# Altium integrated library Atmel AT40K.IntLib: 139 symbols (part 6 of 12)
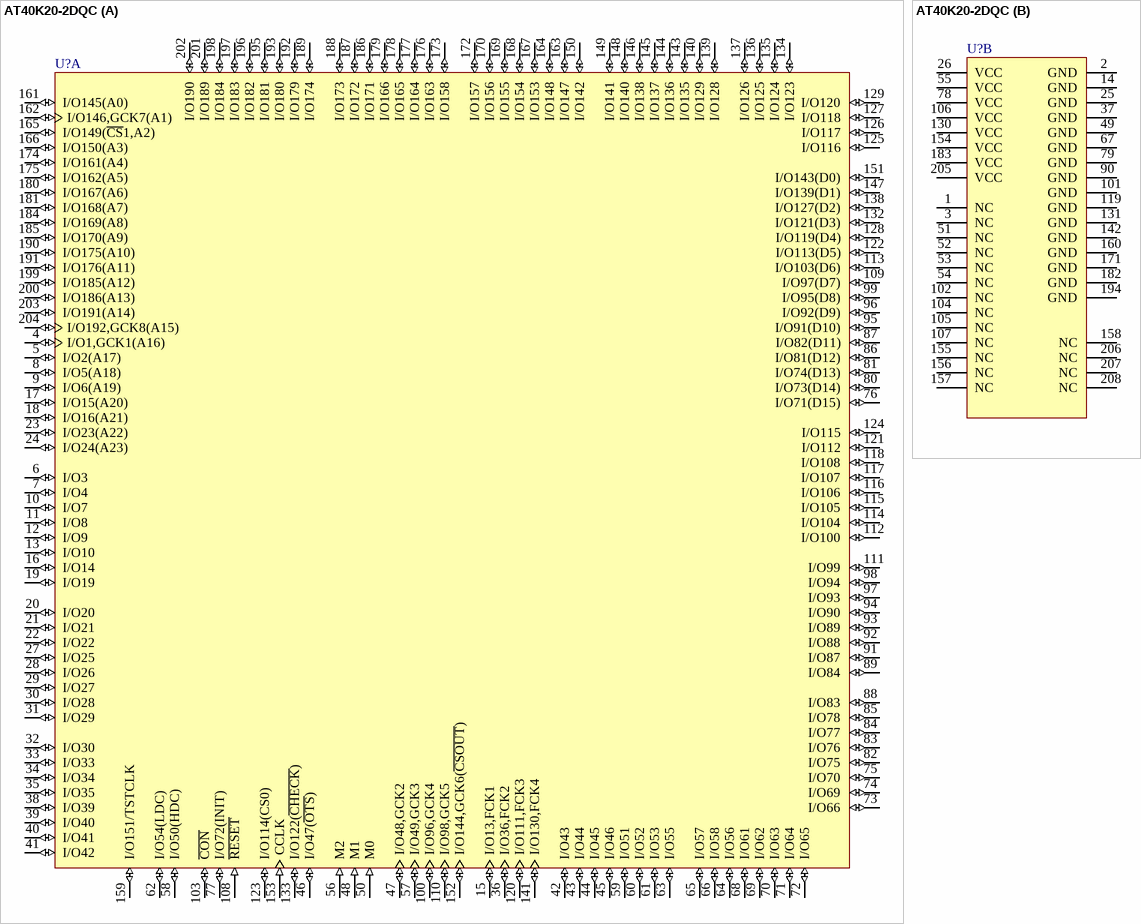
[diagram p93: symbol AT40K20-2DQC]

## AT40K20-2DQC
designator U?
AT40K20 5.0V FPGA, 161 User I/Os, 208-Lead PQFP, Speed Grade 2, Commercial Grade; Published: 15-Apr-2002; LatestRevisionDate: 13-Apr-2006; LatestRevisionNote: IPC-7351 Footprint Added.; DatasheetVersion: Rev. 0896C-04/02; PackageVersion: rev.A, Nov-2001; PackageReference: 208Q1; Publisher: Altium Limited; PackageDescription: 208-Pin Shrink Quad Flat Pack 0.5 mm Pitch; Supplier 1: Digi-Key; Supplier Part Number 1: AT40K20-2DQC-ND; Supplier 2: Mouser; Supplier Part Number 2: 556-AT40K20-2DQC; ComponentLink1Description: Manufacturer Link; ComponentLink1URL: http://www.atmel.com/products/FPGA/; ComponentLink2Description: Datasheet; ComponentLink2URL: http://www.atmel.com/dyn/resources/prod_documents/DOC0896.PDF; ComponentLink3Description: Atmel.com Home; ComponentLink3URL: http://www.atmel.com
footprint 208Q1_N (Shrink QFP, 208-Leads, Body 28x28mm, Pitch 0.5mm, IPC Medium Density)
footprint 208Q1_L (Shrink QFP, 208-Leads, Body 28x28mm, Pitch 0.5mm, IPC High Density)
footprint 208Q1_M (Shrink QFP, 208-Leads, Body 28x28mm, Pitch 0.5mm, IPC Low Density)
part A pins: 4 I/O1,GCK1(A16) (io), 5 I/O2(A17) (io), 6 I/O3 (io), 7 I/O4 (io), 8 I/O5(A18) (io), 9 I/O6(A19) (io), 10 I/O7 (io), 11 I/O8 (io), 12 I/O9 (io), 13 I/O10 (io), 15 I/O13,FCK1 (io), 16 I/O14 (io), 17 I/O15(A20) (io), 18 I/O16(A21) (io), 19 I/O19 (io), 20 I/O20 (io), 21 I/O21 (io), 22 I/O22 (io), 23 I/O23(A22) (io), 24 I/O24(A23) (io), 27 I/O25 (io), 28 I/O26 (io), 29 I/O27 (io), 30 I/O28 (io), 31 I/O29 (io), 32 I/O30 (io), 33 I/O33 (io), 34 I/O34 (io), 35 I/O35 (io), 36 I/O36,FCK2 (io), 38 I/O39 (io), 39 I/O40 (io), 40 I/O41 (io), 41 I/O42 (io), 42 I/O43 (io), 43 I/O44 (io), 44 I/O45 (io), 45 I/O46 (io), 46 I/O47(~{OTS}) (io), 47 I/O48,GCK2 (io), 48 M1 (in), 50 M0 (in), 56 M2 (in), 57 I/O49,GCK3 (io), 58 I/O50(HDC) (io), 59 I/O51 (io), 60 I/O52 (io), 61 I/O53 (io), 62 I/O54(LDC) (io), 63 I/O55 (io), 64 I/O56 (io), 65 I/O57 (io), 66 I/O58 (io), 68 I/O61 (io), 69 I/O62 (io), 70 I/O63 (io), 71 I/O64 (io), 72 I/O65 (io), 73 I/O66 (io), 74 I/O69 (io), 75 I/O70 (io), 76 I/O71(D15) (io), 77 I/O72(INIT) (io), 80 I/O73(D14) (io), 81 I/O74(D13) (io), 82 I/O75 (io), 83 I/O76 (io), 84 I/O77 (io), 85 I/O78 (io), 86 I/O81(D12) (io), 87 I/O82(D11) (io), 88 I/O83 (io), 89 I/O84 (io), 91 I/O87 (io), 92 I/O88 (io), 93 I/O89 (io), 94 I/O90 (io), 95 I/O91(D10) (io), 96 I/O92(D9) (io), 97 I/O93 (io), 98 I/O94 (io), 99 I/O95(D8) (io), 100 I/O96,GCK4 (io), 103 ~{CON} (io), 108 ~{RESET} (in), 109 I/O97(D7) (io), 110 I/O98,GCK5 (io), 111 I/O99 (io), 112 I/O100 (io), 113 I/O103(D6) (io), 114 I/O104 (io), 115 I/O105 (io), 116 I/O106 (io), 117 I/O107 (io), 118 I/O108 (io), 120 I/O111,FCK3 (io), 121 I/O112 (io), 122 I/O113(D5) (io), 123 I/O114(CS0) (io), 124 I/O115 (io), 125 I/O116 (io), 126 I/O117 (io), 127 I/O118 (io), 128 I/O119(D4) (io), 129 I/O120 (io), 132 I/O121(D3) (io), 133 I/O122(~{CHECK}) (io), 134 I/O123 (io), 135 I/O124 (io), 136 I/O125 (io), 137 I/O126 (io), 138 I/O127(D2) (io), 139 I/O128 (io), 140 I/O129 (io), 141 I/O130,FCK4 (io), 143 I/O135 (io), 144 I/O136 (io), 145 I/O137 (io), 146 I/O138 (io), 147 I/O139(D1) (io), 148 I/O140 (io), 149 I/O141 (io), 150 I/O142 (io), 151 I/O143(D0) (io), 152 I/O144,GCK6(~{CSOUT}) (io), 153 CCLK (in), 159 I/O151/TSTCLK (io), 161 I/O145(A0) (io), 162 I/O146,GCK7(A1) (io), 163 I/O147 (io), 164 I/O148 (io), 165 I/O149(~{CS}1,A2) (io), 166 I/O150(A3) (io), 167 I/O153 (io), 168 I/O154 (io), 169 I/O155 (io), 170 I/O156 (io), 172 I/O157 (io), 173 I/O158 (io), 174 I/O161(A4) (io), 175 I/O162(A5) (io), 176 I/O163 (io), 177 I/O164 (io), 178 I/O165 (io), 179 I/O166 (io), 180 I/O167(A6) (io), 181 I/O168(A7) (io), 184 I/O169(A8) (io), 185 I/O170(A9) (io), 186 I/O171 (io), 187 I/O172 (io), 188 I/O173 (io), 189 I/O174 (io), 190 I/O175(A10) (io), 191 I/O176(A11) (io), 192 I/O179 (io), 193 I/O180 (io), 195 I/O181 (io), 196 I/O182 (io), 197 I/O183 (io), 198 I/O184 (io), 199 I/O185(A12) (io), 200 I/O186(A13) (io), 201 I/O189 (io), 202 I/O190 (io), 203 I/O191(A14) (io), 204 I/O192,GCK8(A15) (io)
part B pins: 1 NC, 2 GND (power), 3 NC, 14 GND (power), 25 GND (power), 26 VCC (power), 37 GND (power), 49 GND (power), 51 NC, 52 NC, 53 NC, 54 NC, 55 VCC (power), 67 GND (power), 78 VCC (power), 79 GND (power), 90 GND (power), 101 GND (power), 102 NC, 104 NC, 105 NC, 106 VCC (power), 107 NC, 119 GND (power), 130 VCC (power), 131 GND (power), 142 GND (power), 154 VCC (power), 155 NC, 156 NC, 157 NC, 158 NC, 160 GND (power), 171 GND (power), 182 GND (power), 183 VCC (power), 194 GND (power), 205 VCC (power), 206 NC, 207 NC, 208 NC

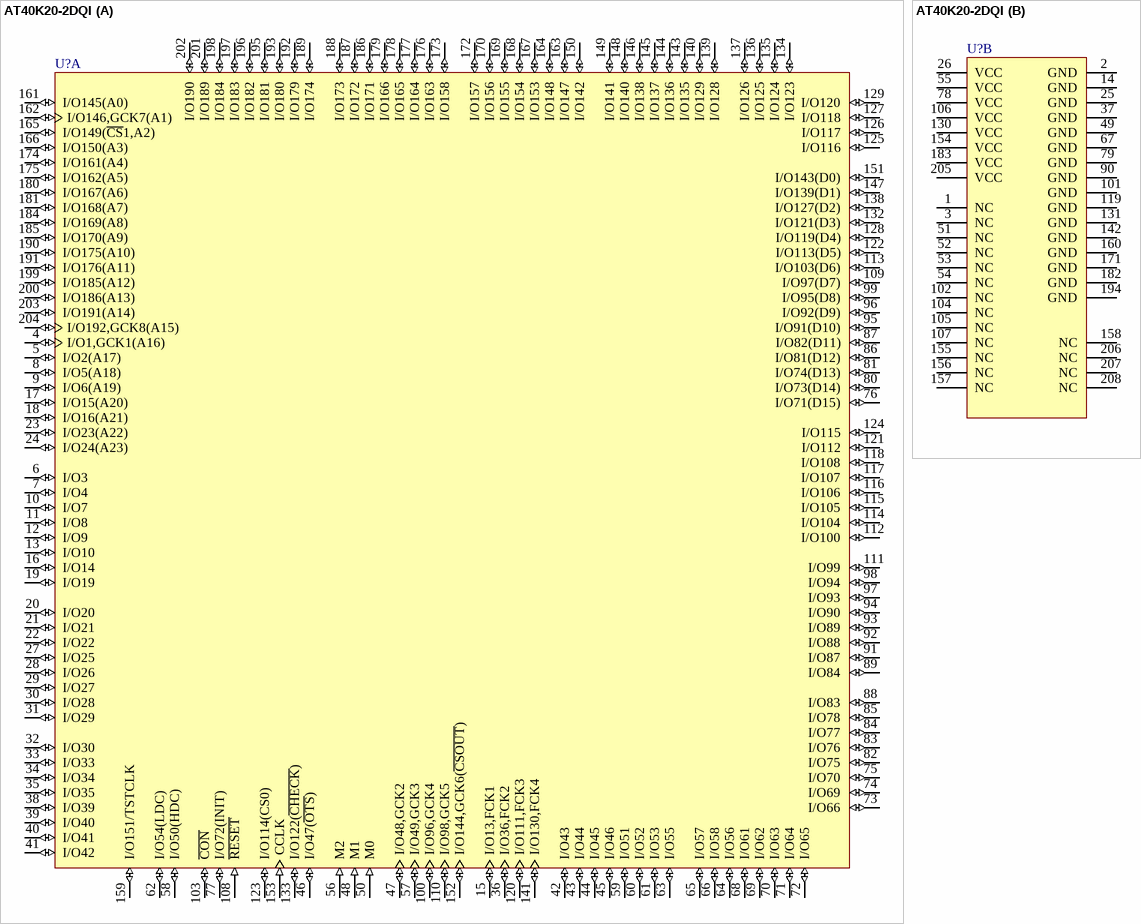
[diagram p33: symbol AT40K20-2DQI]

## AT40K20-2DQI
designator U?
AT40K20 5.0V FPGA, 161 User I/Os, 208-Lead PQFP, Speed Grade 2, Industrial Grade; Published: 15-Apr-2002; LatestRevisionDate: 13-Apr-2006; LatestRevisionNote: IPC-7351 Footprint Added.; DatasheetVersion: Rev. 0896C-04/02; PackageVersion: rev.A, Nov-2001; PackageReference: 208Q1; Publisher: Altium Limited; PackageDescription: 208-Pin Shrink Quad Flat Pack 0.5 mm Pitch; Supplier 1: Digi-Key; Supplier Part Number 1: AT40K20-2DQI-ND; Supplier 2: Mouser; Supplier Part Number 2: 556-AT40K20-2DQI; ComponentLink1Description: Manufacturer Link; ComponentLink1URL: http://www.atmel.com/products/FPGA/; ComponentLink2Description: Datasheet; ComponentLink2URL: http://www.atmel.com/dyn/resources/prod_documents/DOC0896.PDF; ComponentLink3Description: Atmel.com Home; ComponentLink3URL: http://www.atmel.com
footprint 208Q1_N (Shrink QFP, 208-Leads, Body 28x28mm, Pitch 0.5mm, IPC Medium Density)
footprint 208Q1_L (Shrink QFP, 208-Leads, Body 28x28mm, Pitch 0.5mm, IPC High Density)
footprint 208Q1_M (Shrink QFP, 208-Leads, Body 28x28mm, Pitch 0.5mm, IPC Low Density)
part A pins: 4 I/O1,GCK1(A16) (io), 5 I/O2(A17) (io), 6 I/O3 (io), 7 I/O4 (io), 8 I/O5(A18) (io), 9 I/O6(A19) (io), 10 I/O7 (io), 11 I/O8 (io), 12 I/O9 (io), 13 I/O10 (io), 15 I/O13,FCK1 (io), 16 I/O14 (io), 17 I/O15(A20) (io), 18 I/O16(A21) (io), 19 I/O19 (io), 20 I/O20 (io), 21 I/O21 (io), 22 I/O22 (io), 23 I/O23(A22) (io), 24 I/O24(A23) (io), 27 I/O25 (io), 28 I/O26 (io), 29 I/O27 (io), 30 I/O28 (io), 31 I/O29 (io), 32 I/O30 (io), 33 I/O33 (io), 34 I/O34 (io), 35 I/O35 (io), 36 I/O36,FCK2 (io), 38 I/O39 (io), 39 I/O40 (io), 40 I/O41 (io), 41 I/O42 (io), 42 I/O43 (io), 43 I/O44 (io), 44 I/O45 (io), 45 I/O46 (io), 46 I/O47(~{OTS}) (io), 47 I/O48,GCK2 (io), 48 M1 (in), 50 M0 (in), 56 M2 (in), 57 I/O49,GCK3 (io), 58 I/O50(HDC) (io), 59 I/O51 (io), 60 I/O52 (io), 61 I/O53 (io), 62 I/O54(LDC) (io), 63 I/O55 (io), 64 I/O56 (io), 65 I/O57 (io), 66 I/O58 (io), 68 I/O61 (io), 69 I/O62 (io), 70 I/O63 (io), 71 I/O64 (io), 72 I/O65 (io), 73 I/O66 (io), 74 I/O69 (io), 75 I/O70 (io), 76 I/O71(D15) (io), 77 I/O72(INIT) (io), 80 I/O73(D14) (io), 81 I/O74(D13) (io), 82 I/O75 (io), 83 I/O76 (io), 84 I/O77 (io), 85 I/O78 (io), 86 I/O81(D12) (io), 87 I/O82(D11) (io), 88 I/O83 (io), 89 I/O84 (io), 91 I/O87 (io), 92 I/O88 (io), 93 I/O89 (io), 94 I/O90 (io), 95 I/O91(D10) (io), 96 I/O92(D9) (io), 97 I/O93 (io), 98 I/O94 (io), 99 I/O95(D8) (io), 100 I/O96,GCK4 (io), 103 ~{CON} (io), 108 ~{RESET} (in), 109 I/O97(D7) (io), 110 I/O98,GCK5 (io), 111 I/O99 (io), 112 I/O100 (io), 113 I/O103(D6) (io), 114 I/O104 (io), 115 I/O105 (io), 116 I/O106 (io), 117 I/O107 (io), 118 I/O108 (io), 120 I/O111,FCK3 (io), 121 I/O112 (io), 122 I/O113(D5) (io), 123 I/O114(CS0) (io), 124 I/O115 (io), 125 I/O116 (io), 126 I/O117 (io), 127 I/O118 (io), 128 I/O119(D4) (io), 129 I/O120 (io), 132 I/O121(D3) (io), 133 I/O122(~{CHECK}) (io), 134 I/O123 (io), 135 I/O124 (io), 136 I/O125 (io), 137 I/O126 (io), 138 I/O127(D2) (io), 139 I/O128 (io), 140 I/O129 (io), 141 I/O130,FCK4 (io), 143 I/O135 (io), 144 I/O136 (io), 145 I/O137 (io), 146 I/O138 (io), 147 I/O139(D1) (io), 148 I/O140 (io), 149 I/O141 (io), 150 I/O142 (io), 151 I/O143(D0) (io), 152 I/O144,GCK6(~{CSOUT}) (io), 153 CCLK (in), 159 I/O151/TSTCLK (io), 161 I/O145(A0) (io), 162 I/O146,GCK7(A1) (io), 163 I/O147 (io), 164 I/O148 (io), 165 I/O149(~{CS}1,A2) (io), 166 I/O150(A3) (io), 167 I/O153 (io), 168 I/O154 (io), 169 I/O155 (io), 170 I/O156 (io), 172 I/O157 (io), 173 I/O158 (io), 174 I/O161(A4) (io), 175 I/O162(A5) (io), 176 I/O163 (io), 177 I/O164 (io), 178 I/O165 (io), 179 I/O166 (io), 180 I/O167(A6) (io), 181 I/O168(A7) (io), 184 I/O169(A8) (io), 185 I/O170(A9) (io), 186 I/O171 (io), 187 I/O172 (io), 188 I/O173 (io), 189 I/O174 (io), 190 I/O175(A10) (io), 191 I/O176(A11) (io), 192 I/O179 (io), 193 I/O180 (io), 195 I/O181 (io), 196 I/O182 (io), 197 I/O183 (io), 198 I/O184 (io), 199 I/O185(A12) (io), 200 I/O186(A13) (io), 201 I/O189 (io), 202 I/O190 (io), 203 I/O191(A14) (io), 204 I/O192,GCK8(A15) (io)
part B pins: 1 NC, 2 GND (power), 3 NC, 14 GND (power), 25 GND (power), 26 VCC (power), 37 GND (power), 49 GND (power), 51 NC, 52 NC, 53 NC, 54 NC, 55 VCC (power), 67 GND (power), 78 VCC (power), 79 GND (power), 90 GND (power), 101 GND (power), 102 NC, 104 NC, 105 NC, 106 VCC (power), 107 NC, 119 GND (power), 130 VCC (power), 131 GND (power), 142 GND (power), 154 VCC (power), 155 NC, 156 NC, 157 NC, 158 NC, 160 GND (power), 171 GND (power), 182 GND (power), 183 VCC (power), 194 GND (power), 205 VCC (power), 206 NC, 207 NC, 208 NC

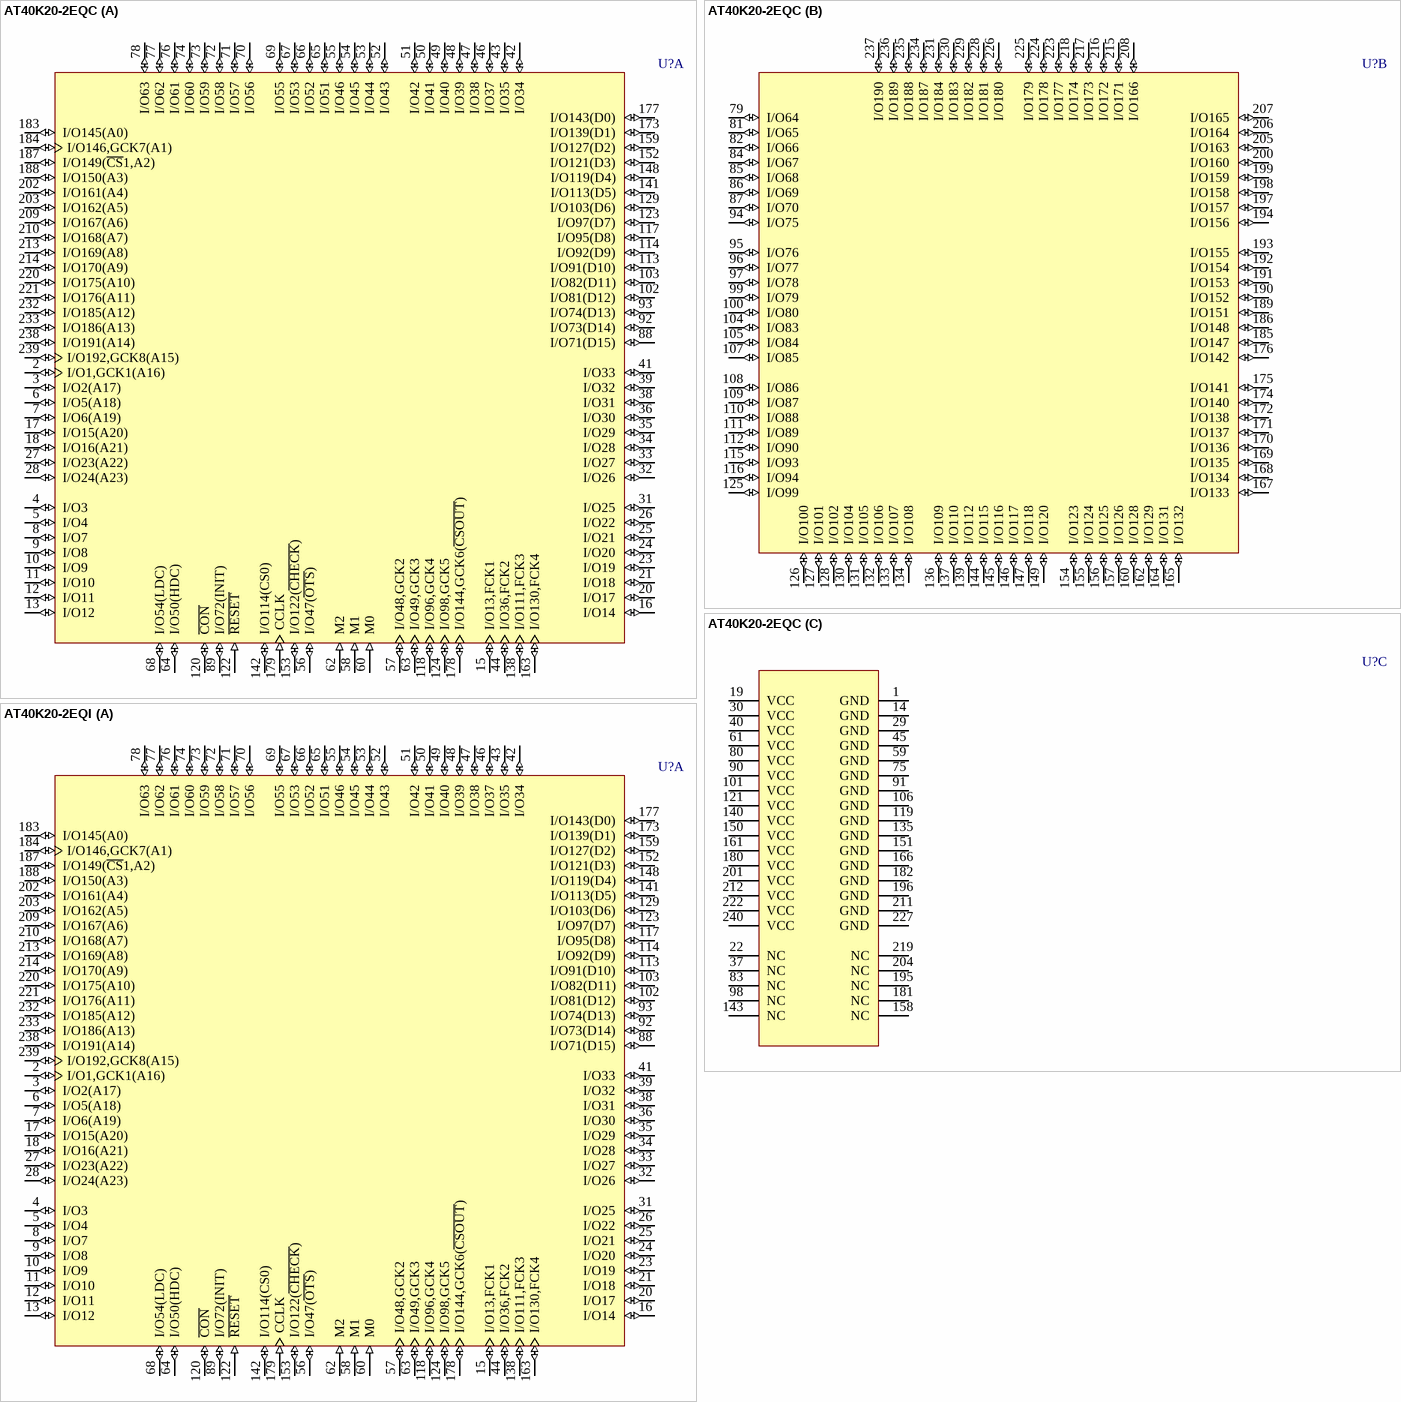
[diagram p34: symbols AT40K20-2EQC to AT40K20-2EQI]

## AT40K20-2EQC
designator U?
AT40K20 5.0V FPGA, 193 User I/Os, 240-Lead PQFP, Speed Grade 2, Commercial Grade; Published: 15-Apr-2002; LatestRevisionDate: 13-Apr-2006; LatestRevisionNote: IPC-7351 Footprint Added.; DatasheetVersion: Rev. 0896C-04/02; PackageVersion: rev.A, Mar-2002; PackageReference: 240Q1; Publisher: Altium Limited; PackageDescription: 240-Pin Shrink Quad Flat Pack 0.5 mm Pitch; Supplier 1: Digi-Key; Supplier Part Number 1: AT40K20-2EQC-ND; Supplier 2: Mouser; Supplier Part Number 2: 556-AT40K20-2EQC; Code_JEDEC: MS-029-GA; ComponentLink1Description: Manufacturer Link; ComponentLink1URL: http://www.atmel.com/products/FPGA/; ComponentLink2Description: Datasheet; ComponentLink2URL: http://www.atmel.com/dyn/resources/prod_documents/DOC0896.PDF; ComponentLink3Description: Atmel.com Home; ComponentLink3URL: http://www.atmel.com
footprint 240Q1_N (Shrink QFP, 240-Leads, Body 32x32mm, Pitch 0.5mm, IPC Medium Density)
footprint 240Q1_L (Shrink QFP, 240-Leads, Body 32x32mm, Pitch 0.5mm, IPC High Density)
footprint 240Q1_M (Shrink QFP, 240-Leads, Body 32x32mm, Pitch 0.5mm, IPC Low Density)
part A pins: 2 I/O1,GCK1(A16) (io), 3 I/O2(A17) (io), 4 I/O3 (io), 5 I/O4 (io), 6 I/O5(A18) (io), 7 I/O6(A19) (io), 8 I/O7 (io), 9 I/O8 (io), 10 I/O9 (io), 11 I/O10 (io), 12 I/O11 (io), 13 I/O12 (io), 15 I/O13,FCK1 (io), 16 I/O14 (io), 17 I/O15(A20) (io), 18 I/O16(A21) (io), 20 I/O17 (io), 21 I/O18 (io), 23 I/O19 (io), 24 I/O20 (io), 25 I/O21 (io), 26 I/O22 (io), 27 I/O23(A22) (io), 28 I/O24(A23) (io), 31 I/O25 (io), 32 I/O26 (io), 33 I/O27 (io), 34 I/O28 (io), 35 I/O29 (io), 36 I/O30 (io), 38 I/O31 (io), 39 I/O32 (io), 41 I/O33 (io), 42 I/O34 (io), 43 I/O35 (io), 44 I/O36,FCK2 (io), 46 I/O37 (io), 47 I/O38 (io), 48 I/O39 (io), 49 I/O40 (io), 50 I/O41 (io), 51 I/O42 (io), 52 I/O43 (io), 53 I/O44 (io), 54 I/O45 (io), 55 I/O46 (io), 56 I/O47(~{OTS}) (io), 57 I/O48,GCK2 (io), 58 M1 (in), 60 M0 (in), 62 M2 (in), 63 I/O49,GCK3 (io), 64 I/O50(HDC) (io), 65 I/O51 (io), 66 I/O52 (io), 67 I/O53 (io), 68 I/O54(LDC) (io), 69 I/O55 (io), 70 I/O56 (io), 71 I/O57 (io), 72 I/O58 (io), 73 I/O59 (io), 74 I/O60 (io), 76 I/O61 (io), 77 I/O62 (io), 78 I/O63 (io), 88 I/O71(D15) (io), 89 I/O72(INIT) (io), 92 I/O73(D14) (io), 93 I/O74(D13) (io), 102 I/O81(D12) (io), 103 I/O82(D11) (io), 113 I/O91(D10) (io), 114 I/O92(D9) (io), 117 I/O95(D8) (io), 118 I/O96,GCK4 (io), 120 ~{CON} (io), 122 ~{RESET} (in), 123 I/O97(D7) (io), 124 I/O98,GCK5 (io), 129 I/O103(D6) (io), 138 I/O111,FCK3 (io), 141 I/O113(D5) (io), 142 I/O114(CS0) (io), 148 I/O119(D4) (io), 152 I/O121(D3) (io), 153 I/O122(~{CHECK}) (io), 159 I/O127(D2) (io), 163 I/O130,FCK4 (io), 173 I/O139(D1) (io), 177 I/O143(D0) (io), 178 I/O144,GCK6(~{CSOUT}) (io), 179 CCLK (in), 183 I/O145(A0) (io), 184 I/O146,GCK7(A1) (io), 187 I/O149(~{CS}1,A2) (io), 188 I/O150(A3) (io), 202 I/O161(A4) (io), 203 I/O162(A5) (io), 209 I/O167(A6) (io), 210 I/O168(A7) (io), 213 I/O169(A8) (io), 214 I/O170(A9) (io), 220 I/O175(A10) (io), 221 I/O176(A11) (io), 232 I/O185(A12) (io), 233 I/O186(A13) (io), 238 I/O191(A14) (io), 239 I/O192,GCK8(A15) (io)
part B pins: 79 I/O64 (io), 81 I/O65 (io), 82 I/O66 (io), 84 I/O67 (io), 85 I/O68 (io), 86 I/O69 (io), 87 I/O70 (io), 94 I/O75 (io), 95 I/O76 (io), 96 I/O77 (io), 97 I/O78 (io), 99 I/O79 (io), 100 I/O80 (io), 104 I/O83 (io), 105 I/O84 (io), 107 I/O85 (io), 108 I/O86 (io), 109 I/O87 (io), 110 I/O88 (io), 111 I/O89 (io), 112 I/O90 (io), 115 I/O93 (io), 116 I/O94 (io), 125 I/O99 (io), 126 I/O100 (io), 127 I/O101 (io), 128 I/O102 (io), 130 I/O104 (io), 131 I/O105 (io), 132 I/O106 (io), 133 I/O107 (io), 134 I/O108 (io), 136 I/O109 (io), 137 I/O110 (io), 139 I/O112 (io), 144 I/O115 (io), 145 I/O116 (io), 146 I/O117 (io), 147 I/O118 (io), 149 I/O120 (io), 154 I/O123 (io), 155 I/O124 (io), 156 I/O125 (io), 157 I/O126 (io), 160 I/O128 (io), 162 I/O129 (io), 164 I/O131 (io), 165 I/O132 (io), 167 I/O133 (io), 168 I/O134 (io), 169 I/O135 (io), 170 I/O136 (io), 171 I/O137 (io), 172 I/O138 (io), 174 I/O140 (io), 175 I/O141 (io), 176 I/O142 (io), 185 I/O147 (io), 186 I/O148 (io), 189 I/O151 (io), 190 I/O152 (io), 191 I/O153 (io), 192 I/O154 (io), 193 I/O155 (io), 194 I/O156 (io), 197 I/O157 (io), 198 I/O158 (io), 199 I/O159 (io), 200 I/O160 (io), 205 I/O163 (io), 206 I/O164 (io), 207 I/O165 (io), 208 I/O166 (io), 215 I/O171 (io), 216 I/O172 (io), 217 I/O173 (io), 218 I/O174 (io), 223 I/O177 (io), 224 I/O178 (io), 225 I/O179 (io), 226 I/O180 (io), 228 I/O181 (io), 229 I/O182 (io), 230 I/O183 (io), 231 I/O184 (io), 234 I/O187 (io), 235 I/O188 (io), 236 I/O189 (io), 237 I/O190 (io)
part C pins: 1 GND (power), 14 GND (power), 19 VCC (power), 22 NC, 29 GND (power), 30 VCC (power), 37 NC, 40 VCC (power), 45 GND (power), 59 GND (power), 61 VCC (power), 75 GND (power), 80 VCC (power), 83 NC, 90 VCC (power), 91 GND (power), 98 NC, 101 VCC (power), 106 GND (power), 119 GND (power), 121 VCC (power), 135 GND (power), 140 VCC (power), 143 NC, 150 VCC (power), 151 GND (power), 158 NC, 161 VCC (power), 166 GND (power), 180 VCC (power), 181 NC, 182 GND (power), 195 NC, 196 GND (power), 201 VCC (power), 204 NC, 211 GND (power), 212 VCC (power), 219 NC, 222 VCC (power), 227 GND (power), 240 VCC (power)

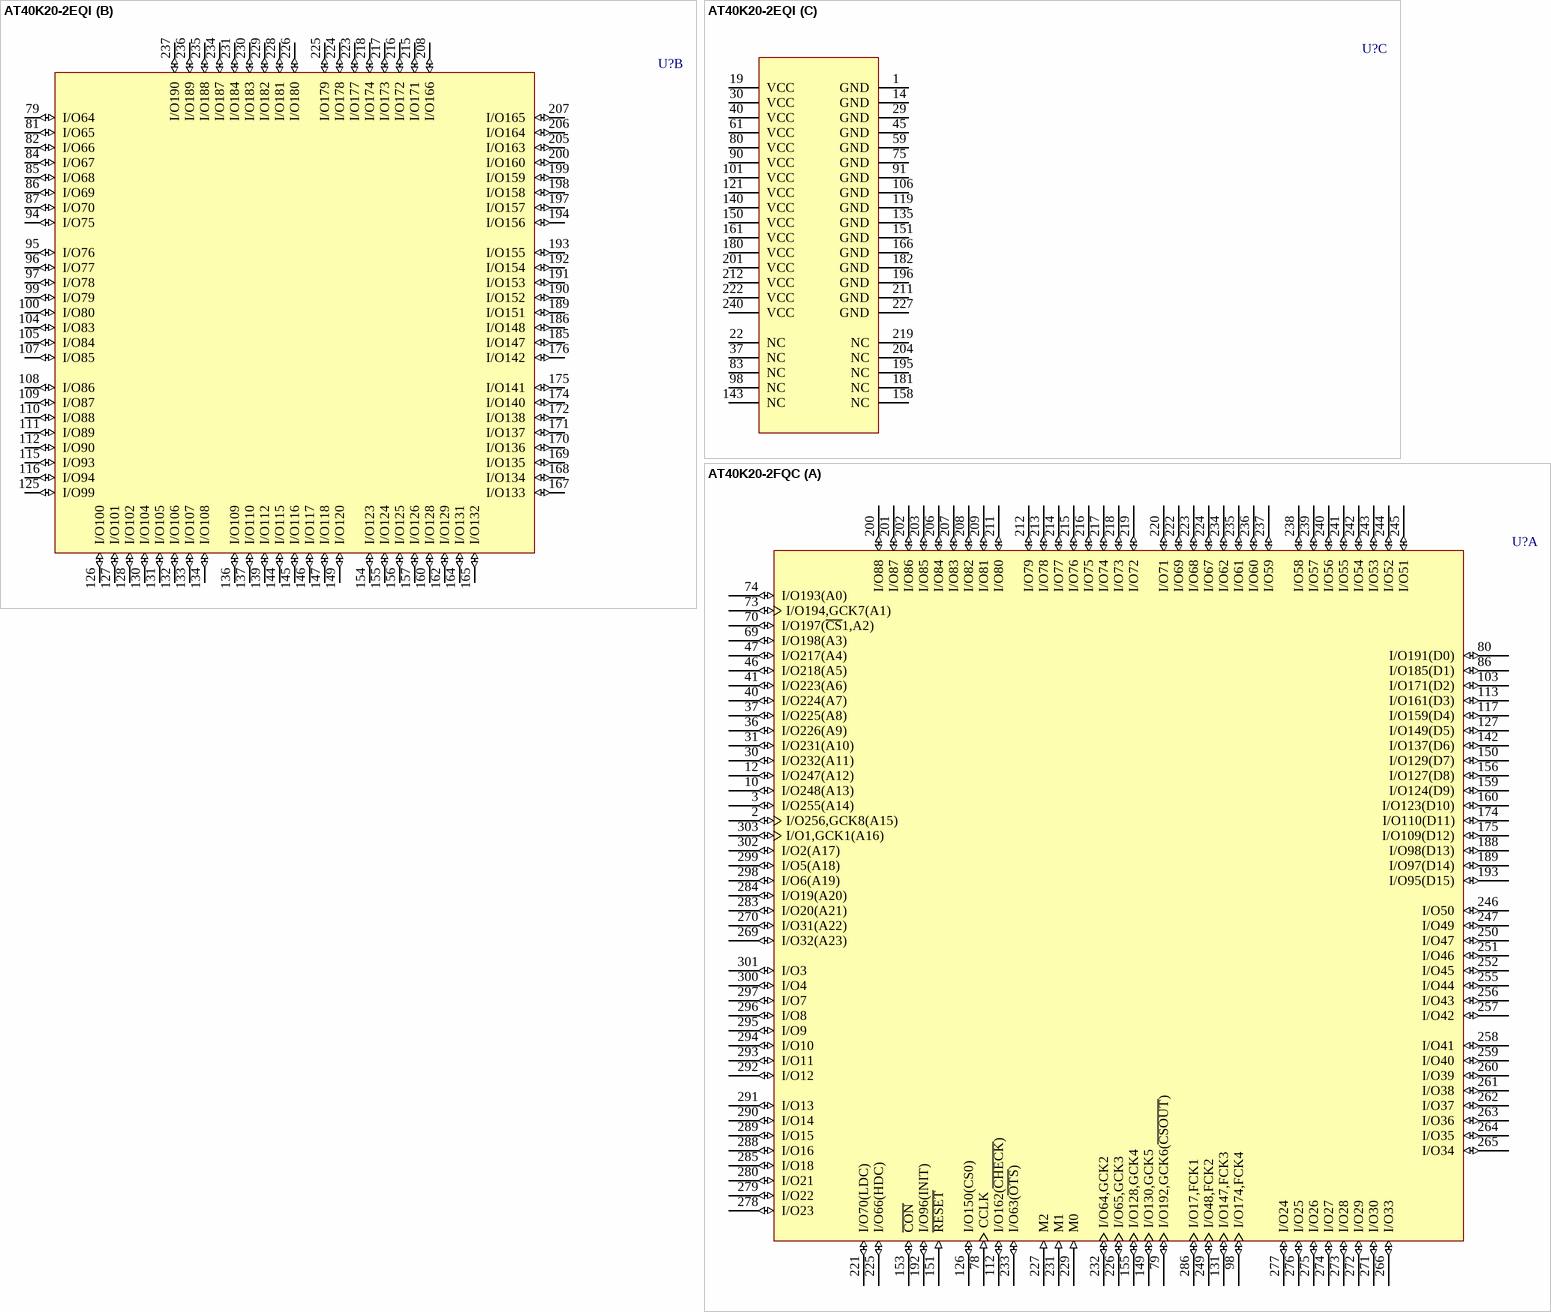
[diagram p35: symbols AT40K20-2EQI to AT40K20-2FQC]

## AT40K20-2EQI
designator U?
AT40K20 5.0V FPGA, 193 User I/Os, 240-Lead PQFP, Speed Grade 2, Industrial Grade; Published: 15-Apr-2002; LatestRevisionDate: 13-Apr-2006; LatestRevisionNote: IPC-7351 Footprint Added.; DatasheetVersion: Rev. 0896C-04/02; PackageVersion: rev.A, Mar-2002; PackageReference: 240Q1; Publisher: Altium Limited; PackageDescription: 240-Pin Shrink Quad Flat Pack 0.5 mm Pitch; Supplier 1: Digi-Key; Supplier Part Number 1: AT40K20-2EQI-ND; Supplier 2: Mouser; Supplier Part Number 2: 556-AT40K20-2EQI; Code_JEDEC: MS-029-GA; ComponentLink1Description: Manufacturer Link; ComponentLink1URL: http://www.atmel.com/products/FPGA/; ComponentLink2Description: Datasheet; ComponentLink2URL: http://www.atmel.com/dyn/resources/prod_documents/DOC0896.PDF; ComponentLink3Description: Atmel.com Home; ComponentLink3URL: http://www.atmel.com
footprint 240Q1_N (Shrink QFP, 240-Leads, Body 32x32mm, Pitch 0.5mm, IPC Medium Density)
footprint 240Q1_L (Shrink QFP, 240-Leads, Body 32x32mm, Pitch 0.5mm, IPC High Density)
footprint 240Q1_M (Shrink QFP, 240-Leads, Body 32x32mm, Pitch 0.5mm, IPC Low Density)
part A pins: 2 I/O1,GCK1(A16) (io), 3 I/O2(A17) (io), 4 I/O3 (io), 5 I/O4 (io), 6 I/O5(A18) (io), 7 I/O6(A19) (io), 8 I/O7 (io), 9 I/O8 (io), 10 I/O9 (io), 11 I/O10 (io), 12 I/O11 (io), 13 I/O12 (io), 15 I/O13,FCK1 (io), 16 I/O14 (io), 17 I/O15(A20) (io), 18 I/O16(A21) (io), 20 I/O17 (io), 21 I/O18 (io), 23 I/O19 (io), 24 I/O20 (io), 25 I/O21 (io), 26 I/O22 (io), 27 I/O23(A22) (io), 28 I/O24(A23) (io), 31 I/O25 (io), 32 I/O26 (io), 33 I/O27 (io), 34 I/O28 (io), 35 I/O29 (io), 36 I/O30 (io), 38 I/O31 (io), 39 I/O32 (io), 41 I/O33 (io), 42 I/O34 (io), 43 I/O35 (io), 44 I/O36,FCK2 (io), 46 I/O37 (io), 47 I/O38 (io), 48 I/O39 (io), 49 I/O40 (io), 50 I/O41 (io), 51 I/O42 (io), 52 I/O43 (io), 53 I/O44 (io), 54 I/O45 (io), 55 I/O46 (io), 56 I/O47(~{OTS}) (io), 57 I/O48,GCK2 (io), 58 M1 (in), 60 M0 (in), 62 M2 (in), 63 I/O49,GCK3 (io), 64 I/O50(HDC) (io), 65 I/O51 (io), 66 I/O52 (io), 67 I/O53 (io), 68 I/O54(LDC) (io), 69 I/O55 (io), 70 I/O56 (io), 71 I/O57 (io), 72 I/O58 (io), 73 I/O59 (io), 74 I/O60 (io), 76 I/O61 (io), 77 I/O62 (io), 78 I/O63 (io), 88 I/O71(D15) (io), 89 I/O72(INIT) (io), 92 I/O73(D14) (io), 93 I/O74(D13) (io), 102 I/O81(D12) (io), 103 I/O82(D11) (io), 113 I/O91(D10) (io), 114 I/O92(D9) (io), 117 I/O95(D8) (io), 118 I/O96,GCK4 (io), 120 ~{CON} (io), 122 ~{RESET} (in), 123 I/O97(D7) (io), 124 I/O98,GCK5 (io), 129 I/O103(D6) (io), 138 I/O111,FCK3 (io), 141 I/O113(D5) (io), 142 I/O114(CS0) (io), 148 I/O119(D4) (io), 152 I/O121(D3) (io), 153 I/O122(~{CHECK}) (io), 159 I/O127(D2) (io), 163 I/O130,FCK4 (io), 173 I/O139(D1) (io), 177 I/O143(D0) (io), 178 I/O144,GCK6(~{CSOUT}) (io), 179 CCLK (in), 183 I/O145(A0) (io), 184 I/O146,GCK7(A1) (io), 187 I/O149(~{CS}1,A2) (io), 188 I/O150(A3) (io), 202 I/O161(A4) (io), 203 I/O162(A5) (io), 209 I/O167(A6) (io), 210 I/O168(A7) (io), 213 I/O169(A8) (io), 214 I/O170(A9) (io), 220 I/O175(A10) (io), 221 I/O176(A11) (io), 232 I/O185(A12) (io), 233 I/O186(A13) (io), 238 I/O191(A14) (io), 239 I/O192,GCK8(A15) (io)
part B pins: 79 I/O64 (io), 81 I/O65 (io), 82 I/O66 (io), 84 I/O67 (io), 85 I/O68 (io), 86 I/O69 (io), 87 I/O70 (io), 94 I/O75 (io), 95 I/O76 (io), 96 I/O77 (io), 97 I/O78 (io), 99 I/O79 (io), 100 I/O80 (io), 104 I/O83 (io), 105 I/O84 (io), 107 I/O85 (io), 108 I/O86 (io), 109 I/O87 (io), 110 I/O88 (io), 111 I/O89 (io), 112 I/O90 (io), 115 I/O93 (io), 116 I/O94 (io), 125 I/O99 (io), 126 I/O100 (io), 127 I/O101 (io), 128 I/O102 (io), 130 I/O104 (io), 131 I/O105 (io), 132 I/O106 (io), 133 I/O107 (io), 134 I/O108 (io), 136 I/O109 (io), 137 I/O110 (io), 139 I/O112 (io), 144 I/O115 (io), 145 I/O116 (io), 146 I/O117 (io), 147 I/O118 (io), 149 I/O120 (io), 154 I/O123 (io), 155 I/O124 (io), 156 I/O125 (io), 157 I/O126 (io), 160 I/O128 (io), 162 I/O129 (io), 164 I/O131 (io), 165 I/O132 (io), 167 I/O133 (io), 168 I/O134 (io), 169 I/O135 (io), 170 I/O136 (io), 171 I/O137 (io), 172 I/O138 (io), 174 I/O140 (io), 175 I/O141 (io), 176 I/O142 (io), 185 I/O147 (io), 186 I/O148 (io), 189 I/O151 (io), 190 I/O152 (io), 191 I/O153 (io), 192 I/O154 (io), 193 I/O155 (io), 194 I/O156 (io), 197 I/O157 (io), 198 I/O158 (io), 199 I/O159 (io), 200 I/O160 (io), 205 I/O163 (io), 206 I/O164 (io), 207 I/O165 (io), 208 I/O166 (io), 215 I/O171 (io), 216 I/O172 (io), 217 I/O173 (io), 218 I/O174 (io), 223 I/O177 (io), 224 I/O178 (io), 225 I/O179 (io), 226 I/O180 (io), 228 I/O181 (io), 229 I/O182 (io), 230 I/O183 (io), 231 I/O184 (io), 234 I/O187 (io), 235 I/O188 (io), 236 I/O189 (io), 237 I/O190 (io)
part C pins: 1 GND (power), 14 GND (power), 19 VCC (power), 22 NC, 29 GND (power), 30 VCC (power), 37 NC, 40 VCC (power), 45 GND (power), 59 GND (power), 61 VCC (power), 75 GND (power), 80 VCC (power), 83 NC, 90 VCC (power), 91 GND (power), 98 NC, 101 VCC (power), 106 GND (power), 119 GND (power), 121 VCC (power), 135 GND (power), 140 VCC (power), 143 NC, 150 VCC (power), 151 GND (power), 158 NC, 161 VCC (power), 166 GND (power), 180 VCC (power), 181 NC, 182 GND (power), 195 NC, 196 GND (power), 201 VCC (power), 204 NC, 211 GND (power), 212 VCC (power), 219 NC, 222 VCC (power), 227 GND (power), 240 VCC (power)

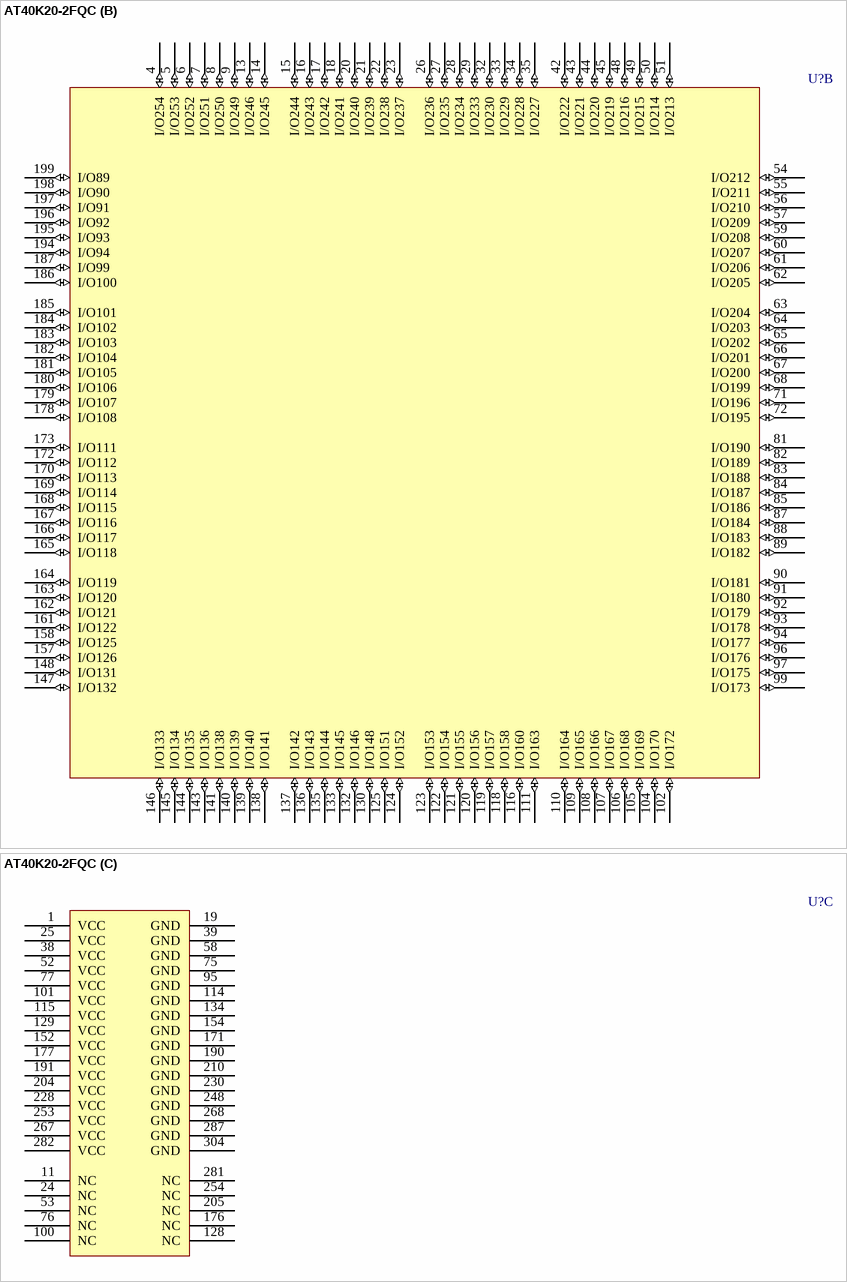
[diagram p36: symbol AT40K20-2FQC]

## AT40K20-2FQC
designator U?
AT40K20 5.0V FPGA, 256 User I/Os, 304-Lead PQFP, Speed Grade 2, Commercial Grade; Published: 15-Apr-2002; LatestRevisionDate: 13-Apr-2006; LatestRevisionNote: IPC-7351 Footprint Added.; DatasheetVersion: Rev. 0896C-04/02; PackageVersion: rev.A, Mar-2002; PackageReference: 304Q1; Publisher: Altium Limited; PackageDescription: 304-Pin Shrink Quad Flat Pack 0.5 mm Pitch; Supplier 1: Digi-Key; Supplier Part Number 1: AT40K20-2FQC-ND; Supplier 2: Mouser; Supplier Part Number 2: 556-AT40K20-2FQC; Code_JEDEC: MS-029-JA; ComponentLink1Description: Manufacturer Link; ComponentLink1URL: http://www.atmel.com/products/FPGA/; ComponentLink2Description: Datasheet; ComponentLink2URL: http://www.atmel.com/dyn/resources/prod_documents/DOC0896.PDF; ComponentLink3Description: Atmel.com Home; ComponentLink3URL: http://www.atmel.com
footprint 304Q1_N (Shrink QFP, 304-Leads, Body 40x40mm, Pitch 0.5mm, IPC Medium Density)
footprint 304Q1_L (Shrink QFP, 304-Leads, Body 40x40mm, Pitch 0.5mm, IPC High Density)
footprint 304Q1_M (Shrink QFP, 304-Leads, Body 40x40mm, Pitch 0.5mm, IPC Low Density)
part A pins: 2 I/O256,GCK8(A15) (io), 3 I/O255(A14) (io), 10 I/O248(A13) (io), 12 I/O247(A12) (io), 30 I/O232(A11) (io), 31 I/O231(A10) (io), 36 I/O226(A9) (io), 37 I/O225(A8) (io), 40 I/O224(A7) (io), 41 I/O223(A6) (io), 46 I/O218(A5) (io), 47 I/O217(A4) (io), 69 I/O198(A3) (io), 70 I/O197(~{CS}1,A2) (io), 73 I/O194,GCK7(A1) (io), 74 I/O193(A0) (io), 78 CCLK (in), 79 I/O192,GCK6(~{CSOUT}) (io), 80 I/O191(D0) (io), 86 I/O185(D1) (io), 98 I/O174,FCK4 (io), 103 I/O171(D2) (io), 112 I/O162(~{CHECK}) (io), 113 I/O161(D3) (io), 117 I/O159(D4) (io), 126 I/O150(CS0) (io), 127 I/O149(D5) (io), 131 I/O147,FCK3 (io), 142 I/O137(D6) (io), 149 I/O130,GCK5 (io), 150 I/O129(D7) (io), 151 ~{RESET} (in), 153 ~{CON} (io), 155 I/O128,GCK4 (io), 156 I/O127(D8) (io), 159 I/O124(D9) (io), 160 I/O123(D10) (io), 174 I/O110(D11) (io), 175 I/O109(D12) (io), 188 I/O98(D13) (io), 189 I/O97(D14) (io), 192 I/O96(INIT) (io), 193 I/O95(D15) (io), 200 I/O88 (io), 201 I/O87 (io), 202 I/O86 (io), 203 I/O85 (io), 206 I/O84 (io), 207 I/O83 (io), 208 I/O82 (io), 209 I/O81 (io), 211 I/O80 (io), 212 I/O79 (io), 213 I/O78 (io), 214 I/O77 (io), 215 I/O76 (io), 216 I/O75 (io), 217 I/O74 (io), 218 I/O73 (io), 219 I/O72 (io), 220 I/O71 (io), 221 I/O70(LDC) (io), 222 I/O69 (io), 223 I/O68 (io), 224 I/O67 (io), 225 I/O66(HDC) (io), 226 I/O65,GCK3 (io), 227 M2 (in), 229 M0 (in), 231 M1 (in), 232 I/O64,GCK2 (io), 233 I/O63(~{OTS}) (io), 234 I/O62 (io), 235 I/O61 (io), 236 I/O60 (io), 237 I/O59 (io), 238 I/O58 (io), 239 I/O57 (io), 240 I/O56 (io), 241 I/O55 (io), 242 I/O54 (io), 243 I/O53 (io), 244 I/O52 (io), 245 I/O51 (io), 246 I/O50 (io), 247 I/O49 (io), 249 I/O48,FCK2 (io), 250 I/O47 (io), 251 I/O46 (io), 252 I/O45 (io), 255 I/O44 (io), 256 I/O43 (io), 257 I/O42 (io), 258 I/O41 (io), 259 I/O40 (io), 260 I/O39 (io), 261 I/O38 (io), 262 I/O37 (io), 263 I/O36 (io), 264 I/O35 (io), 265 I/O34 (io), 266 I/O33 (io), 269 I/O32(A23) (io), 270 I/O31(A22) (io), 271 I/O30 (io), 272 I/O29 (io), 273 I/O28 (io), 274 I/O27 (io), 275 I/O26 (io), 276 I/O25 (io), 277 I/O24 (io), 278 I/O23 (io), 279 I/O22 (io), 280 I/O21 (io), 283 I/O20(A21) (io), 284 I/O19(A20) (io), 285 I/O18 (io), 286 I/O17,FCK1 (io), 288 I/O16 (io), 289 I/O15 (io), 290 I/O14 (io), 291 I/O13 (io), 292 I/O12 (io), 293 I/O11 (io), 294 I/O10 (io), 295 I/O9 (io), 296 I/O8 (io), 297 I/O7 (io), 298 I/O6(A19) (io), 299 I/O5(A18) (io), 300 I/O4 (io), 301 I/O3 (io), 302 I/O2(A17) (io), 303 I/O1,GCK1(A16) (io)
part B pins: 4 I/O254 (io), 5 I/O253 (io), 6 I/O252 (io), 7 I/O251 (io), 8 I/O250 (io), 9 I/O249 (io), 13 I/O246 (io), 14 I/O245 (io), 15 I/O244 (io), 16 I/O243 (io), 17 I/O242 (io), 18 I/O241 (io), 20 I/O240 (io), 21 I/O239 (io), 22 I/O238 (io), 23 I/O237 (io), 26 I/O236 (io), 27 I/O235 (io), 28 I/O234 (io), 29 I/O233 (io), 32 I/O230 (io), 33 I/O229 (io), 34 I/O228 (io), 35 I/O227 (io), 42 I/O222 (io), 43 I/O221 (io), 44 I/O220 (io), 45 I/O219 (io), 48 I/O216 (io), 49 I/O215 (io), 50 I/O214 (io), 51 I/O213 (io), 54 I/O212 (io), 55 I/O211 (io), 56 I/O210 (io), 57 I/O209 (io), 59 I/O208 (io), 60 I/O207 (io), 61 I/O206 (io), 62 I/O205 (io), 63 I/O204 (io), 64 I/O203 (io), 65 I/O202 (io), 66 I/O201 (io), 67 I/O200 (io), 68 I/O199 (io), 71 I/O196 (io), 72 I/O195 (io), 81 I/O190 (io), 82 I/O189 (io), 83 I/O188 (io), 84 I/O187 (io), 85 I/O186 (io), 87 I/O184 (io), 88 I/O183 (io), 89 I/O182 (io), 90 I/O181 (io), 91 I/O180 (io), 92 I/O179 (io), 93 I/O178 (io), 94 I/O177 (io), 96 I/O176 (io), 97 I/O175 (io), 99 I/O173 (io), 102 I/O172 (io), 104 I/O170 (io), 105 I/O169 (io), 106 I/O168 (io), 107 I/O167 (io), 108 I/O166 (io), 109 I/O165 (io), 110 I/O164 (io), 111 I/O163 (io), 116 I/O160 (io), 118 I/O158 (io), 119 I/O157 (io), 120 I/O156 (io), 121 I/O155 (io), 122 I/O154 (io), 123 I/O153 (io), 124 I/O152 (io), 125 I/O151 (io), 130 I/O148 (io), 132 I/O146 (io), 133 I/O145 (io), 135 I/O144 (io), 136 I/O143 (io), 137 I/O142 (io), 138 I/O141 (io), 139 I/O140 (io), 140 I/O139 (io), 141 I/O138 (io), 143 I/O136 (io), 144 I/O135 (io), 145 I/O134 (io), 146 I/O133 (io), 147 I/O132 (io), 148 I/O131 (io), 157 I/O126 (io), 158 I/O125 (io), 161 I/O122 (io), 162 I/O121 (io), 163 I/O120 (io), 164 I/O119 (io), 165 I/O118 (io), 166 I/O117 (io), 167 I/O116 (io), 168 I/O115 (io), 169 I/O114 (io), 170 I/O113 (io), 172 I/O112 (io), 173 I/O111 (io), 178 I/O108 (io), 179 I/O107 (io), 180 I/O106 (io), 181 I/O105 (io), 182 I/O104 (io), 183 I/O103 (io), 184 I/O102 (io), 185 I/O101 (io), 186 I/O100 (io), 187 I/O99 (io), 194 I/O94 (io), 195 I/O93 (io), 196 I/O92 (io), 197 I/O91 (io), 198 I/O90 (io), 199 I/O89 (io)
part C pins: 1 VCC (power), 11 NC, 19 GND (power), 24 NC, 25 VCC (power), 38 VCC (power), 39 GND (power), 52 VCC (power), 53 NC, 58 GND (power), 75 GND (power), 76 NC, 77 VCC (power), 95 GND (power), 100 NC, 101 VCC (power), 114 GND (power), 115 VCC (power), 128 NC, 129 VCC (power), 134 GND (power), 152 VCC (power), 154 GND (power), 171 GND (power), 176 NC, 177 VCC (power), 190 GND (power), 191 VCC (power), 204 VCC (power), 205 NC, 210 GND (power), 228 VCC (power), 230 GND (power), 248 GND (power), 253 VCC (power), 254 NC, 267 VCC (power), 268 GND (power), 281 NC, 282 VCC (power), 287 GND (power), 304 GND (power)

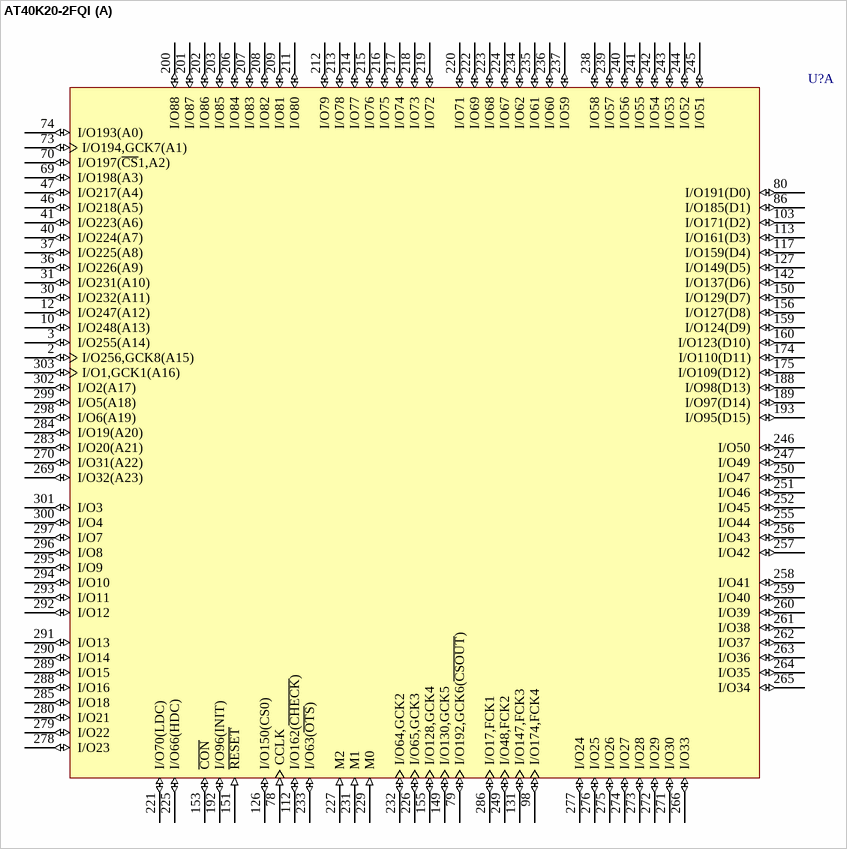
[diagram p37: symbol AT40K20-2FQI]

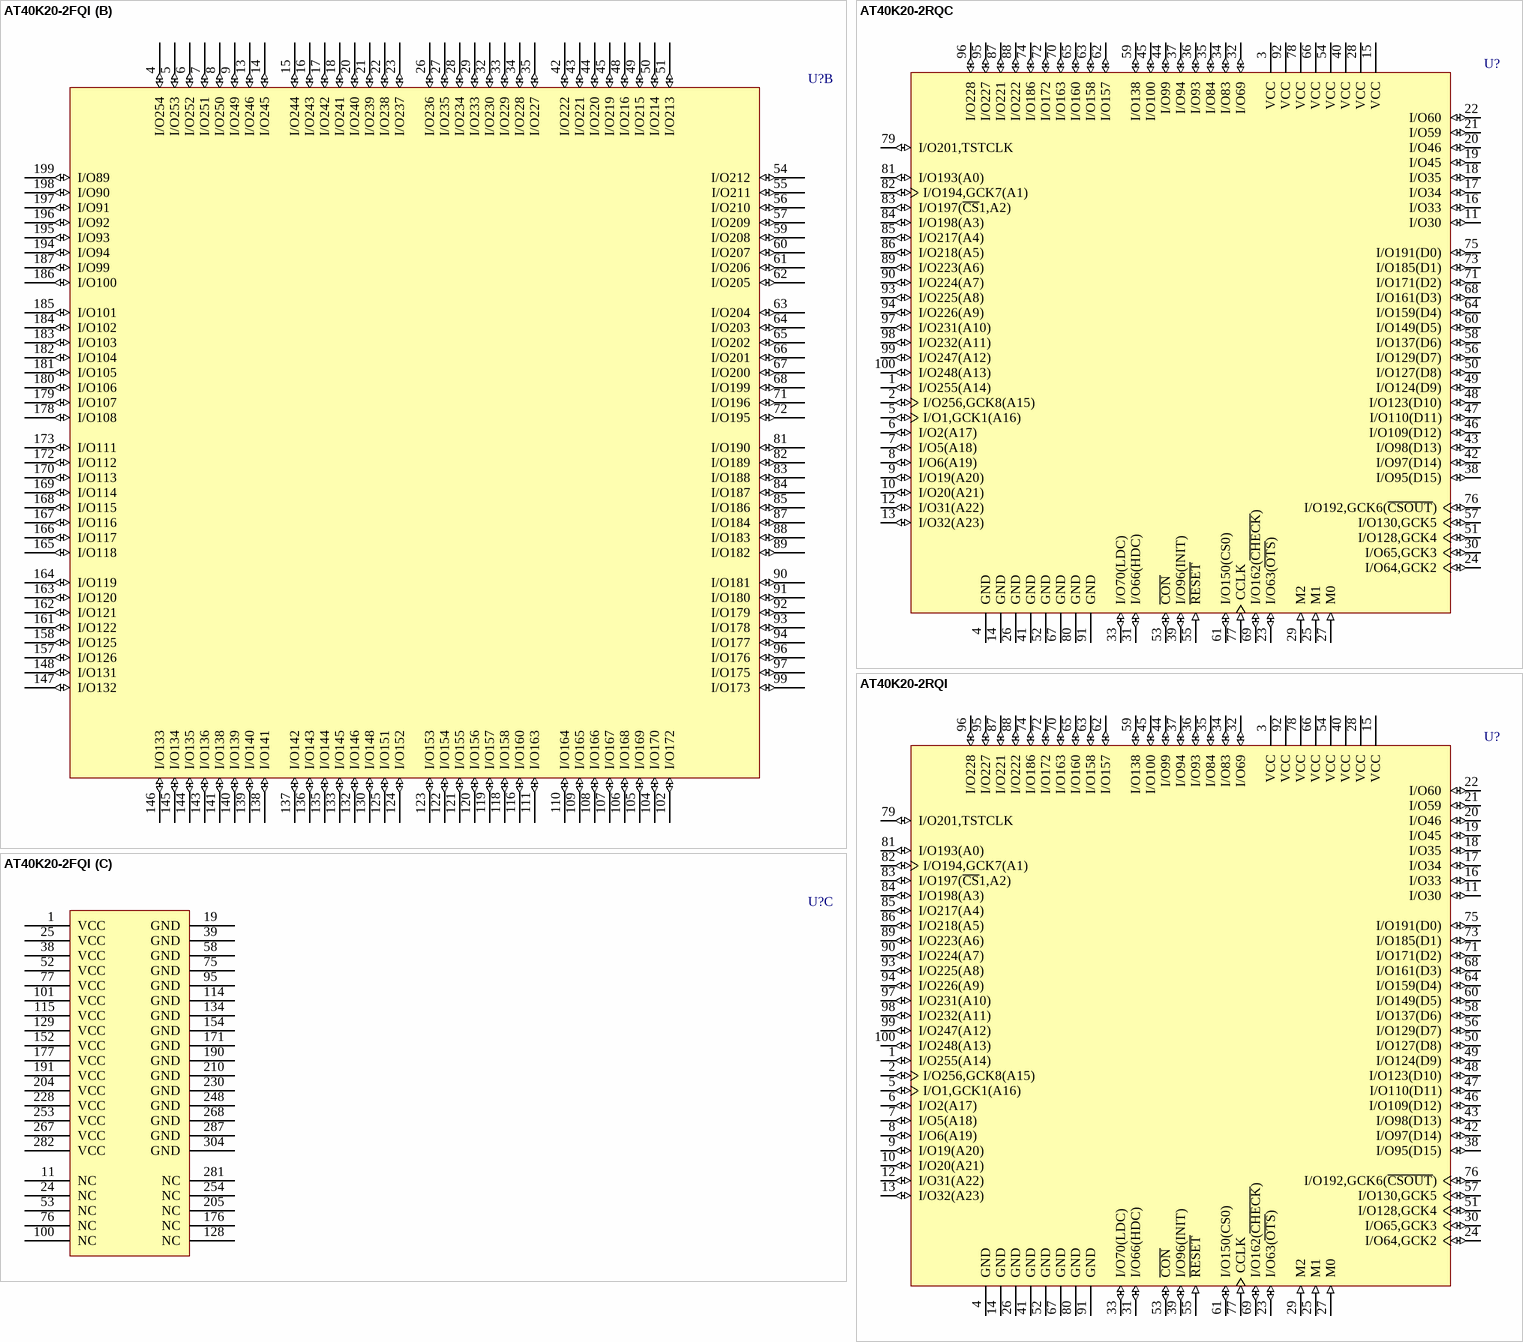
[diagram p38: symbols AT40K20-2FQI to AT40K20-2RQI]

## AT40K20-2FQI
designator U?
AT40K20 5.0V FPGA, 256 User I/Os, 304-Lead PQFP, Speed Grade 2, Industrial Grade; Published: 15-Apr-2002; LatestRevisionDate: 13-Apr-2006; LatestRevisionNote: IPC-7351 Footprint Added.; DatasheetVersion: Rev. 0896C-04/02; PackageVersion: rev.A, Mar-2002; PackageReference: 304Q1; Publisher: Altium Limited; PackageDescription: 304-Pin Shrink Quad Flat Pack 0.5 mm Pitch; Supplier 1: Digi-Key; Supplier Part Number 1: AT40K20-2FQI-ND; Supplier 2: Mouser; Supplier Part Number 2: 556-AT40K20-2FQI; Code_JEDEC: MS-029-JA; ComponentLink1Description: Manufacturer Link; ComponentLink1URL: http://www.atmel.com/products/FPGA/; ComponentLink2Description: Datasheet; ComponentLink2URL: http://www.atmel.com/dyn/resources/prod_documents/DOC0896.PDF; ComponentLink3Description: Atmel.com Home; ComponentLink3URL: http://www.atmel.com
footprint 304Q1_N (Shrink QFP, 304-Leads, Body 40x40mm, Pitch 0.5mm, IPC Medium Density)
footprint 304Q1_L (Shrink QFP, 304-Leads, Body 40x40mm, Pitch 0.5mm, IPC High Density)
footprint 304Q1_M (Shrink QFP, 304-Leads, Body 40x40mm, Pitch 0.5mm, IPC Low Density)
part A pins: 2 I/O256,GCK8(A15) (io), 3 I/O255(A14) (io), 10 I/O248(A13) (io), 12 I/O247(A12) (io), 30 I/O232(A11) (io), 31 I/O231(A10) (io), 36 I/O226(A9) (io), 37 I/O225(A8) (io), 40 I/O224(A7) (io), 41 I/O223(A6) (io), 46 I/O218(A5) (io), 47 I/O217(A4) (io), 69 I/O198(A3) (io), 70 I/O197(~{CS}1,A2) (io), 73 I/O194,GCK7(A1) (io), 74 I/O193(A0) (io), 78 CCLK (in), 79 I/O192,GCK6(~{CSOUT}) (io), 80 I/O191(D0) (io), 86 I/O185(D1) (io), 98 I/O174,FCK4 (io), 103 I/O171(D2) (io), 112 I/O162(~{CHECK}) (io), 113 I/O161(D3) (io), 117 I/O159(D4) (io), 126 I/O150(CS0) (io), 127 I/O149(D5) (io), 131 I/O147,FCK3 (io), 142 I/O137(D6) (io), 149 I/O130,GCK5 (io), 150 I/O129(D7) (io), 151 ~{RESET} (in), 153 ~{CON} (io), 155 I/O128,GCK4 (io), 156 I/O127(D8) (io), 159 I/O124(D9) (io), 160 I/O123(D10) (io), 174 I/O110(D11) (io), 175 I/O109(D12) (io), 188 I/O98(D13) (io), 189 I/O97(D14) (io), 192 I/O96(INIT) (io), 193 I/O95(D15) (io), 200 I/O88 (io), 201 I/O87 (io), 202 I/O86 (io), 203 I/O85 (io), 206 I/O84 (io), 207 I/O83 (io), 208 I/O82 (io), 209 I/O81 (io), 211 I/O80 (io), 212 I/O79 (io), 213 I/O78 (io), 214 I/O77 (io), 215 I/O76 (io), 216 I/O75 (io), 217 I/O74 (io), 218 I/O73 (io), 219 I/O72 (io), 220 I/O71 (io), 221 I/O70(LDC) (io), 222 I/O69 (io), 223 I/O68 (io), 224 I/O67 (io), 225 I/O66(HDC) (io), 226 I/O65,GCK3 (io), 227 M2 (in), 229 M0 (in), 231 M1 (in), 232 I/O64,GCK2 (io), 233 I/O63(~{OTS}) (io), 234 I/O62 (io), 235 I/O61 (io), 236 I/O60 (io), 237 I/O59 (io), 238 I/O58 (io), 239 I/O57 (io), 240 I/O56 (io), 241 I/O55 (io), 242 I/O54 (io), 243 I/O53 (io), 244 I/O52 (io), 245 I/O51 (io), 246 I/O50 (io), 247 I/O49 (io), 249 I/O48,FCK2 (io), 250 I/O47 (io), 251 I/O46 (io), 252 I/O45 (io), 255 I/O44 (io), 256 I/O43 (io), 257 I/O42 (io), 258 I/O41 (io), 259 I/O40 (io), 260 I/O39 (io), 261 I/O38 (io), 262 I/O37 (io), 263 I/O36 (io), 264 I/O35 (io), 265 I/O34 (io), 266 I/O33 (io), 269 I/O32(A23) (io), 270 I/O31(A22) (io), 271 I/O30 (io), 272 I/O29 (io), 273 I/O28 (io), 274 I/O27 (io), 275 I/O26 (io), 276 I/O25 (io), 277 I/O24 (io), 278 I/O23 (io), 279 I/O22 (io), 280 I/O21 (io), 283 I/O20(A21) (io), 284 I/O19(A20) (io), 285 I/O18 (io), 286 I/O17,FCK1 (io), 288 I/O16 (io), 289 I/O15 (io), 290 I/O14 (io), 291 I/O13 (io), 292 I/O12 (io), 293 I/O11 (io), 294 I/O10 (io), 295 I/O9 (io), 296 I/O8 (io), 297 I/O7 (io), 298 I/O6(A19) (io), 299 I/O5(A18) (io), 300 I/O4 (io), 301 I/O3 (io), 302 I/O2(A17) (io), 303 I/O1,GCK1(A16) (io)
part B pins: 4 I/O254 (io), 5 I/O253 (io), 6 I/O252 (io), 7 I/O251 (io), 8 I/O250 (io), 9 I/O249 (io), 13 I/O246 (io), 14 I/O245 (io), 15 I/O244 (io), 16 I/O243 (io), 17 I/O242 (io), 18 I/O241 (io), 20 I/O240 (io), 21 I/O239 (io), 22 I/O238 (io), 23 I/O237 (io), 26 I/O236 (io), 27 I/O235 (io), 28 I/O234 (io), 29 I/O233 (io), 32 I/O230 (io), 33 I/O229 (io), 34 I/O228 (io), 35 I/O227 (io), 42 I/O222 (io), 43 I/O221 (io), 44 I/O220 (io), 45 I/O219 (io), 48 I/O216 (io), 49 I/O215 (io), 50 I/O214 (io), 51 I/O213 (io), 54 I/O212 (io), 55 I/O211 (io), 56 I/O210 (io), 57 I/O209 (io), 59 I/O208 (io), 60 I/O207 (io), 61 I/O206 (io), 62 I/O205 (io), 63 I/O204 (io), 64 I/O203 (io), 65 I/O202 (io), 66 I/O201 (io), 67 I/O200 (io), 68 I/O199 (io), 71 I/O196 (io), 72 I/O195 (io), 81 I/O190 (io), 82 I/O189 (io), 83 I/O188 (io), 84 I/O187 (io), 85 I/O186 (io), 87 I/O184 (io), 88 I/O183 (io), 89 I/O182 (io), 90 I/O181 (io), 91 I/O180 (io), 92 I/O179 (io), 93 I/O178 (io), 94 I/O177 (io), 96 I/O176 (io), 97 I/O175 (io), 99 I/O173 (io), 102 I/O172 (io), 104 I/O170 (io), 105 I/O169 (io), 106 I/O168 (io), 107 I/O167 (io), 108 I/O166 (io), 109 I/O165 (io), 110 I/O164 (io), 111 I/O163 (io), 116 I/O160 (io), 118 I/O158 (io), 119 I/O157 (io), 120 I/O156 (io), 121 I/O155 (io), 122 I/O154 (io), 123 I/O153 (io), 124 I/O152 (io), 125 I/O151 (io), 130 I/O148 (io), 132 I/O146 (io), 133 I/O145 (io), 135 I/O144 (io), 136 I/O143 (io), 137 I/O142 (io), 138 I/O141 (io), 139 I/O140 (io), 140 I/O139 (io), 141 I/O138 (io), 143 I/O136 (io), 144 I/O135 (io), 145 I/O134 (io), 146 I/O133 (io), 147 I/O132 (io), 148 I/O131 (io), 157 I/O126 (io), 158 I/O125 (io), 161 I/O122 (io), 162 I/O121 (io), 163 I/O120 (io), 164 I/O119 (io), 165 I/O118 (io), 166 I/O117 (io), 167 I/O116 (io), 168 I/O115 (io), 169 I/O114 (io), 170 I/O113 (io), 172 I/O112 (io), 173 I/O111 (io), 178 I/O108 (io), 179 I/O107 (io), 180 I/O106 (io), 181 I/O105 (io), 182 I/O104 (io), 183 I/O103 (io), 184 I/O102 (io), 185 I/O101 (io), 186 I/O100 (io), 187 I/O99 (io), 194 I/O94 (io), 195 I/O93 (io), 196 I/O92 (io), 197 I/O91 (io), 198 I/O90 (io), 199 I/O89 (io)
part C pins: 1 VCC (power), 11 NC, 19 GND (power), 24 NC, 25 VCC (power), 38 VCC (power), 39 GND (power), 52 VCC (power), 53 NC, 58 GND (power), 75 GND (power), 76 NC, 77 VCC (power), 95 GND (power), 100 NC, 101 VCC (power), 114 GND (power), 115 VCC (power), 128 NC, 129 VCC (power), 134 GND (power), 152 VCC (power), 154 GND (power), 171 GND (power), 176 NC, 177 VCC (power), 190 GND (power), 191 VCC (power), 204 VCC (power), 205 NC, 210 GND (power), 228 VCC (power), 230 GND (power), 248 GND (power), 253 VCC (power), 254 NC, 267 VCC (power), 268 GND (power), 281 NC, 282 VCC (power), 287 GND (power), 304 GND (power)

## AT40K20-2RQC
designator U?
AT40K20 5.0V FPGA, 77 User I/Os, 100-Lead PQFP, Speed Grade 2, Commercial Grade; Published: 17-Dec-2003; LatestRevisionDate: 13-Apr-2006; LatestRevisionNote: IPC-7351 Footprint Added.; DatasheetVersion: Rev. 0896C-04/02; PackageVersion: rev.A, Mar-2002; PackageReference: 100Q4; Publisher: Altium Limited; PackageDescription: 100-Pin Quad Flat Pack Rectangular 0.65 mm Pitch; Code_JEDEC: MS-022-GC-1; Code_IPC: QFP65P1720X2320-100; ComponentLink1Description: Manufacturer Link; ComponentLink1URL: http://www.atmel.com/products/FPGA/; ComponentLink2Description: Datasheet; ComponentLink2URL: http://www.atmel.com/dyn/resources/prod_documents/DOC0896.PDF; ComponentLink3Description: Atmel.com Home; ComponentLink3URL: http://www.atmel.com
footprint 100Q4_N (QFP, 100-Leads, Body 20x14mm, Pitch 0.65mm, IPC Medium Density)
footprint 100Q4_L (QFP, 100-Leads, Body 20x14mm, Pitch 0.65mm, IPC High Density)
footprint 100Q4_M (QFP, 100-Leads, Body 20x14mm, Pitch 0.65mm, IPC Low Density)
pins: 1 I/O255(A14) (io), 2 I/O256,GCK8(A15) (io), 3 VCC (power), 4 GND (power), 5 I/O1,GCK1(A16) (io), 6 I/O2(A17) (io), 7 I/O5(A18) (io), 8 I/O6(A19) (io), 9 I/O19(A20) (io), 10 I/O20(A21) (io), 11 I/O30 (io), 12 I/O31(A22) (io), 13 I/O32(A23) (io), 14 GND (power), 15 VCC (power), 16 I/O33 (io), 17 I/O34 (io), 18 I/O35 (io), 19 I/O45 (io), 20 I/O46 (io), 21 I/O59 (io), 22 I/O60 (io), 23 I/O63(~{OTS}) (io), 24 I/O64,GCK2 (io), 25 M1 (in), 26 GND (power), 27 M0 (in), 28 VCC (power), 29 M2 (in), 30 I/O65,GCK3 (io), 31 I/O66(HDC) (io), 32 I/O69 (io), 33 I/O70(LDC) (io), 34 I/O83 (io), 35 I/O84 (io), 36 I/O93 (io), 37 I/O94 (io), 38 I/O95(D15) (io), 39 I/O96(INIT) (io), 40 VCC (power), 41 GND (power), 42 I/O97(D14) (io), 43 I/O98(D13) (io), 44 I/O99 (io), 45 I/O100 (io), 46 I/O109(D12) (io), 47 I/O110(D11) (io), 48 I/O123(D10) (io), 49 I/O124(D9) (io), 50 I/O127(D8) (io), 51 I/O128,GCK4 (io), 52 GND (power), 53 ~{CON} (io), 54 VCC (power), 55 ~{RESET} (in), 56 I/O129(D7) (io), 57 I/O130,GCK5 (io), 58 I/O137(D6) (io), 59 I/O138 (io), 60 I/O149(D5) (io), 61 I/O150(CS0) (io), 62 I/O157 (io), 63 I/O158 (io), 64 I/O159(D4) (io), 65 I/O160 (io), 66 VCC (power), 67 GND (power), 68 I/O161(D3) (io), 69 I/O162(~{CHECK}) (io), 70 I/O163 (io), 71 I/O171(D2) (io), 72 I/O172 (io), 73 I/O185(D1) (io), 74 I/O186 (io), 75 I/O191(D0) (io), 76 I/O192,GCK6(~{CSOUT}) (io), 77 CCLK (in), 78 VCC (power), 79 I/O201,TSTCLK (io), 80 GND (power), 81 I/O193(A0) (io), 82 I/O194,GCK7(A1) (io), 83 I/O197(~{CS}1,A2) (io), 84 I/O198(A3) (io), 85 I/O217(A4) (io), 86 I/O218(A5) (io), 87 I/O221 (io), 88 I/O222 (io), 89 I/O223(A6) (io), 90 I/O224(A7) (io), 91 GND (power), 92 VCC (power), 93 I/O225(A8) (io), 94 I/O226(A9) (io), 95 I/O227 (io), 96 I/O228 (io), 97 I/O231(A10) (io), 98 I/O232(A11) (io), 99 I/O247(A12) (io), 100 I/O248(A13) (io)

## AT40K20-2RQI
designator U?
AT40K20 5.0V FPGA, 77 User I/Os, 100-Lead PQFP, Speed Grade 2, Industrial Grade; Published: 17-Dec-2003; LatestRevisionDate: 13-Apr-2006; LatestRevisionNote: IPC-7351 Footprint Added.; DatasheetVersion: Rev. 0896C-04/02; PackageVersion: rev.A, Mar-2002; PackageReference: 100Q4; Publisher: Altium Limited; PackageDescription: 100-Pin Quad Flat Pack Rectangular 0.65 mm Pitch; Code_JEDEC: MS-022-GC-1; Code_IPC: QFP65P1720X2320-100; ComponentLink1Description: Manufacturer Link; ComponentLink1URL: http://www.atmel.com/products/FPGA/; ComponentLink2Description: Datasheet; ComponentLink2URL: http://www.atmel.com/dyn/resources/prod_documents/DOC0896.PDF; ComponentLink3Description: Atmel.com Home; ComponentLink3URL: http://www.atmel.com
footprint 100Q4_N (QFP, 100-Leads, Body 20x14mm, Pitch 0.65mm, IPC Medium Density)
footprint 100Q4_L (QFP, 100-Leads, Body 20x14mm, Pitch 0.65mm, IPC High Density)
footprint 100Q4_M (QFP, 100-Leads, Body 20x14mm, Pitch 0.65mm, IPC Low Density)
pins: 1 I/O255(A14) (io), 2 I/O256,GCK8(A15) (io), 3 VCC (power), 4 GND (power), 5 I/O1,GCK1(A16) (io), 6 I/O2(A17) (io), 7 I/O5(A18) (io), 8 I/O6(A19) (io), 9 I/O19(A20) (io), 10 I/O20(A21) (io), 11 I/O30 (io), 12 I/O31(A22) (io), 13 I/O32(A23) (io), 14 GND (power), 15 VCC (power), 16 I/O33 (io), 17 I/O34 (io), 18 I/O35 (io), 19 I/O45 (io), 20 I/O46 (io), 21 I/O59 (io), 22 I/O60 (io), 23 I/O63(~{OTS}) (io), 24 I/O64,GCK2 (io), 25 M1 (in), 26 GND (power), 27 M0 (in), 28 VCC (power), 29 M2 (in), 30 I/O65,GCK3 (io), 31 I/O66(HDC) (io), 32 I/O69 (io), 33 I/O70(LDC) (io), 34 I/O83 (io), 35 I/O84 (io), 36 I/O93 (io), 37 I/O94 (io), 38 I/O95(D15) (io), 39 I/O96(INIT) (io), 40 VCC (power), 41 GND (power), 42 I/O97(D14) (io), 43 I/O98(D13) (io), 44 I/O99 (io), 45 I/O100 (io), 46 I/O109(D12) (io), 47 I/O110(D11) (io), 48 I/O123(D10) (io), 49 I/O124(D9) (io), 50 I/O127(D8) (io), 51 I/O128,GCK4 (io), 52 GND (power), 53 ~{CON} (io), 54 VCC (power), 55 ~{RESET} (in), 56 I/O129(D7) (io), 57 I/O130,GCK5 (io), 58 I/O137(D6) (io), 59 I/O138 (io), 60 I/O149(D5) (io), 61 I/O150(CS0) (io), 62 I/O157 (io), 63 I/O158 (io), 64 I/O159(D4) (io), 65 I/O160 (io), 66 VCC (power), 67 GND (power), 68 I/O161(D3) (io), 69 I/O162(~{CHECK}) (io), 70 I/O163 (io), 71 I/O171(D2) (io), 72 I/O172 (io), 73 I/O185(D1) (io), 74 I/O186 (io), 75 I/O191(D0) (io), 76 I/O192,GCK6(~{CSOUT}) (io), 77 CCLK (in), 78 VCC (power), 79 I/O201,TSTCLK (io), 80 GND (power), 81 I/O193(A0) (io), 82 I/O194,GCK7(A1) (io), 83 I/O197(~{CS}1,A2) (io), 84 I/O198(A3) (io), 85 I/O217(A4) (io), 86 I/O218(A5) (io), 87 I/O221 (io), 88 I/O222 (io), 89 I/O223(A6) (io), 90 I/O224(A7) (io), 91 GND (power), 92 VCC (power), 93 I/O225(A8) (io), 94 I/O226(A9) (io), 95 I/O227 (io), 96 I/O228 (io), 97 I/O231(A10) (io), 98 I/O232(A11) (io), 99 I/O247(A12) (io), 100 I/O248(A13) (io)

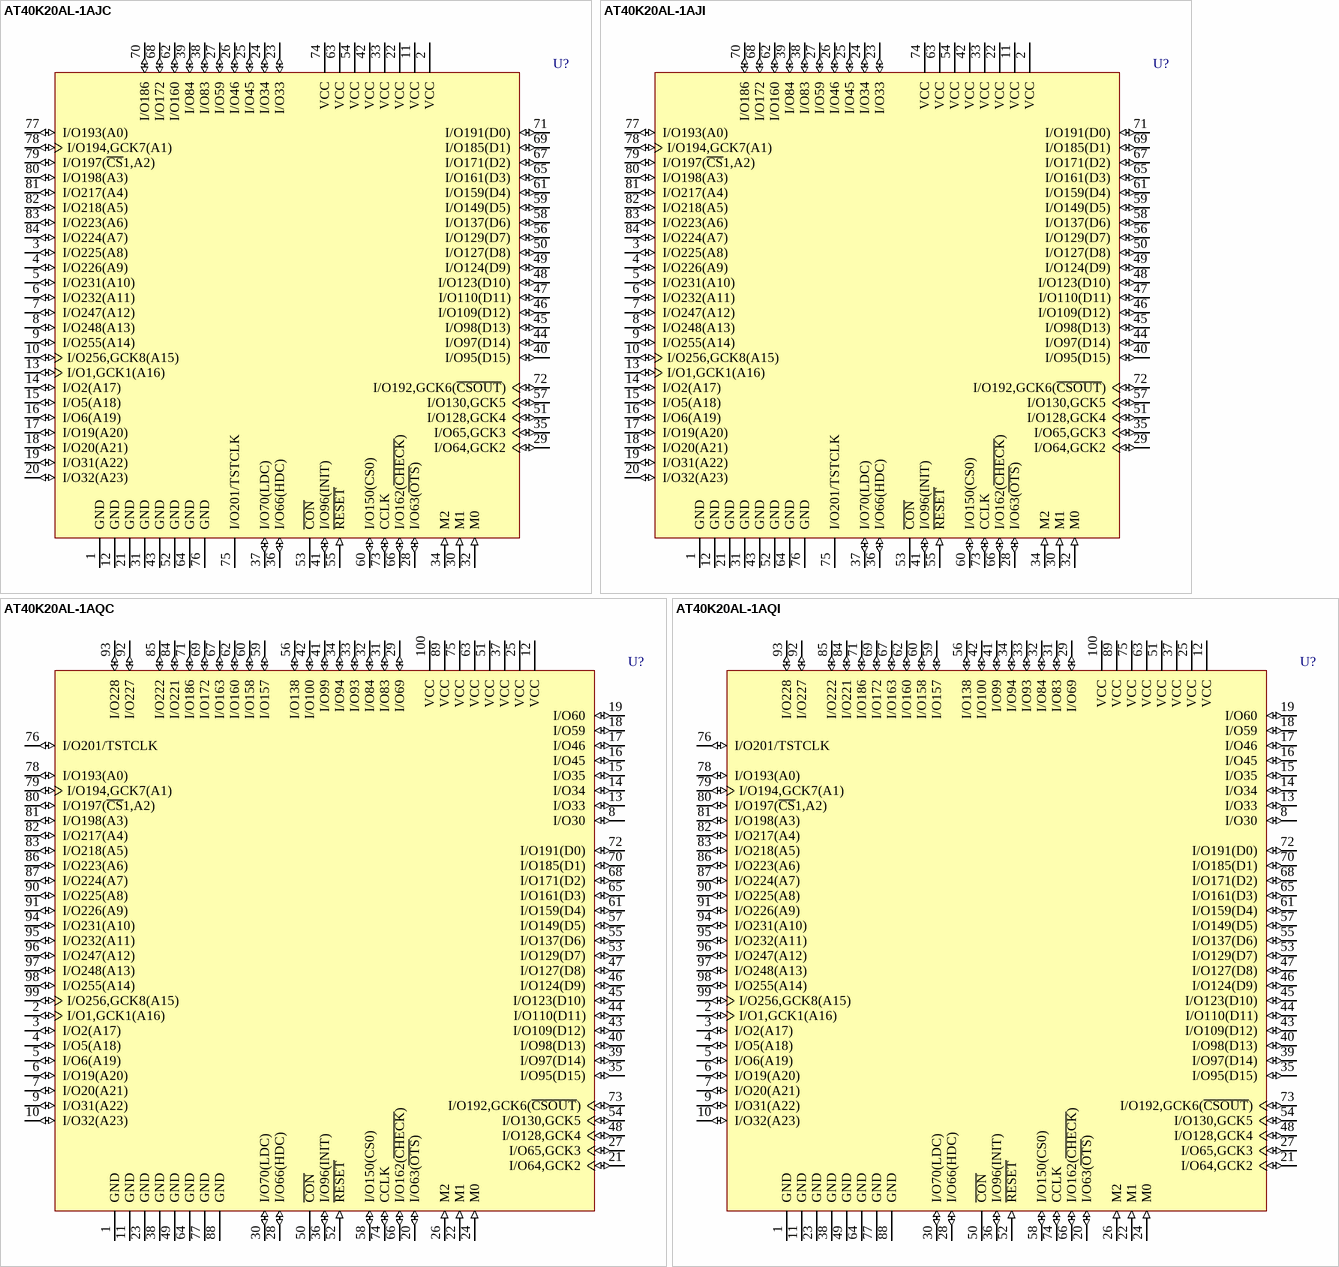
[diagram p39: symbols AT40K20AL-1AJC to AT40K20AL-1AQI]

## AT40K20AL-1AJC
designator U?
AT40K20AL 3.3V FPGA, 62 User I/Os, 84-Lead PLCC, Speed Grade 1, Commercial Grade; Published: 17-Dec-2003; LatestRevisionDate: 13-Apr-2006; LatestRevisionNote: IPC-7351 Footprint Added.; DatasheetVersion: Rev. 2818D-02/03; PackageVersion: rev.B, Oct-2001; PackageReference: 84J; Publisher: Altium Limited; PackageDescription: 84J, 84-lead, Plastic J-leaded Chip Carrier (PLCC); Supplier 1: Digi-Key; Supplier Part Number 1: AT40K20AL-1AJC-ND; Supplier 2: Mouser; Supplier Part Number 2: 556-AT40K20AL-1AJC; Code_JEDEC: MS-018-AF; Code_IPC: PLCC-84; ComponentLink1Description: Manufacturer Link; ComponentLink1URL: http://www.atmel.com/products/FPGA/; ComponentLink2Description: Datasheet; ComponentLink2URL: http://www.atmel.com/dyn/resources/prod_documents/DOC0896.PDF; ComponentLink3Description: Atmel.com Home; ComponentLink3URL: http://www.atmel.com
footprint 84J_N (Leaded Chip Carrier, 84-Leads, Body 29.3x29.3mm, Pitch 1.27mm, IPC Medium Density)
footprint 84J_L (Leaded Chip Carrier, 84-Leads, Body 29.3x29.3mm, Pitch 1.27mm, IPC High Density)
footprint 84J_M (Leaded Chip Carrier, 84-Leads, Body 29.3x29.3mm, Pitch 1.27mm, IPC Low Density)
pins: 1 GND (power), 2 VCC (power), 3 I/O225(A8) (io), 4 I/O226(A9) (io), 5 I/O231(A10) (io), 6 I/O232(A11) (io), 7 I/O247(A12) (io), 8 I/O248(A13) (io), 9 I/O255(A14) (io), 10 I/O256,GCK8(A15) (io), 11 VCC (power), 12 GND (power), 13 I/O1,GCK1(A16) (io), 14 I/O2(A17) (io), 15 I/O5(A18) (io), 16 I/O6(A19) (io), 17 I/O19(A20) (io), 18 I/O20(A21) (io), 19 I/O31(A22) (io), 20 I/O32(A23) (io), 21 GND (power), 22 VCC (power), 23 I/O33 (io), 24 I/O34 (io), 25 I/O45 (io), 26 I/O46 (io), 27 I/O59 (io), 28 I/O63(~{OTS}) (io), 29 I/O64,GCK2 (io), 30 M1 (in), 31 GND (power), 32 M0 (in), 33 VCC (power), 34 M2 (in), 35 I/O65,GCK3 (io), 36 I/O66(HDC) (io), 37 I/O70(LDC) (io), 38 I/O83 (io), 39 I/O84 (io), 40 I/O95(D15) (io), 41 I/O96(INIT) (io), 42 VCC (power), 43 GND (power), 44 I/O97(D14) (io), 45 I/O98(D13) (io), 46 I/O109(D12) (io), 47 I/O110(D11) (io), 48 I/O123(D10) (io), 49 I/O124(D9) (io), 50 I/O127(D8) (io), 51 I/O128,GCK4 (io), 52 GND (power), 53 ~{CON} (oc), 54 VCC (power), 55 ~{RESET} (in), 56 I/O129(D7) (io), 57 I/O130,GCK5 (io), 58 I/O137(D6) (io), 59 I/O149(D5) (io), 60 I/O150(CS0) (io), 61 I/O159(D4) (io), 62 I/O160 (io), 63 VCC (power), 64 GND (power), 65 I/O161(D3) (io), 66 I/O162(~{CHECK}) (io), 67 I/O171(D2) (io), 68 I/O172 (io), 69 I/O185(D1) (io), 70 I/O186 (io), 71 I/O191(D0) (io), 72 I/O192,GCK6(~{CSOUT}) (io), 73 CCLK (io), 74 VCC (power), 75 I/O201/TSTCLK, 76 GND (power), 77 I/O193(A0) (io), 78 I/O194,GCK7(A1) (io), 79 I/O197(~{CS}1,A2) (io), 80 I/O198(A3) (io), 81 I/O217(A4) (io), 82 I/O218(A5) (io), 83 I/O223(A6) (io), 84 I/O224(A7) (io)

## AT40K20AL-1AJI
designator U?
AT40K20AL 3.3V FPGA, 62 User I/Os, 84-Lead PLCC, Speed Grade 1, Industrial Grade; Published: 17-Dec-2003; LatestRevisionDate: 13-Apr-2006; LatestRevisionNote: IPC-7351 Footprint Added.; DatasheetVersion: Rev. 2818D-02/03; PackageVersion: rev.B, Oct-2001; PackageReference: 84J; Publisher: Altium Limited; PackageDescription: 84J, 84-lead, Plastic J-leaded Chip Carrier (PLCC); Code_JEDEC: MS-018-AF; Code_IPC: PLCC-84; ComponentLink1Description: Manufacturer Link; ComponentLink1URL: http://www.atmel.com/products/FPGA/; ComponentLink2Description: Datasheet; ComponentLink2URL: http://www.atmel.com/dyn/resources/prod_documents/DOC0896.PDF; ComponentLink3Description: Atmel.com Home; ComponentLink3URL: http://www.atmel.com
footprint 84J_N (Leaded Chip Carrier, 84-Leads, Body 29.3x29.3mm, Pitch 1.27mm, IPC Medium Density)
footprint 84J_L (Leaded Chip Carrier, 84-Leads, Body 29.3x29.3mm, Pitch 1.27mm, IPC High Density)
footprint 84J_M (Leaded Chip Carrier, 84-Leads, Body 29.3x29.3mm, Pitch 1.27mm, IPC Low Density)
pins: 1 GND (power), 2 VCC (power), 3 I/O225(A8) (io), 4 I/O226(A9) (io), 5 I/O231(A10) (io), 6 I/O232(A11) (io), 7 I/O247(A12) (io), 8 I/O248(A13) (io), 9 I/O255(A14) (io), 10 I/O256,GCK8(A15) (io), 11 VCC (power), 12 GND (power), 13 I/O1,GCK1(A16) (io), 14 I/O2(A17) (io), 15 I/O5(A18) (io), 16 I/O6(A19) (io), 17 I/O19(A20) (io), 18 I/O20(A21) (io), 19 I/O31(A22) (io), 20 I/O32(A23) (io), 21 GND (power), 22 VCC (power), 23 I/O33 (io), 24 I/O34 (io), 25 I/O45 (io), 26 I/O46 (io), 27 I/O59 (io), 28 I/O63(~{OTS}) (io), 29 I/O64,GCK2 (io), 30 M1 (in), 31 GND (power), 32 M0 (in), 33 VCC (power), 34 M2 (in), 35 I/O65,GCK3 (io), 36 I/O66(HDC) (io), 37 I/O70(LDC) (io), 38 I/O83 (io), 39 I/O84 (io), 40 I/O95(D15) (io), 41 I/O96(INIT) (io), 42 VCC (power), 43 GND (power), 44 I/O97(D14) (io), 45 I/O98(D13) (io), 46 I/O109(D12) (io), 47 I/O110(D11) (io), 48 I/O123(D10) (io), 49 I/O124(D9) (io), 50 I/O127(D8) (io), 51 I/O128,GCK4 (io), 52 GND (power), 53 ~{CON} (oc), 54 VCC (power), 55 ~{RESET} (in), 56 I/O129(D7) (io), 57 I/O130,GCK5 (io), 58 I/O137(D6) (io), 59 I/O149(D5) (io), 60 I/O150(CS0) (io), 61 I/O159(D4) (io), 62 I/O160 (io), 63 VCC (power), 64 GND (power), 65 I/O161(D3) (io), 66 I/O162(~{CHECK}) (io), 67 I/O171(D2) (io), 68 I/O172 (io), 69 I/O185(D1) (io), 70 I/O186 (io), 71 I/O191(D0) (io), 72 I/O192,GCK6(~{CSOUT}) (io), 73 CCLK (io), 74 VCC (power), 75 I/O201/TSTCLK, 76 GND (power), 77 I/O193(A0) (io), 78 I/O194,GCK7(A1) (io), 79 I/O197(~{CS}1,A2) (io), 80 I/O198(A3) (io), 81 I/O217(A4) (io), 82 I/O218(A5) (io), 83 I/O223(A6) (io), 84 I/O224(A7) (io)

## AT40K20AL-1AQC
designator U?
AT40K20AL 3.3V FPGA, 78 User I/Os, 100-Lead TQFP, Speed Grade 1, Commercial Grade; Published: 17-Dec-2003; LatestRevisionDate: 13-Apr-2006; LatestRevisionNote: IPC-7351 Footprint Added.; DatasheetVersion: Rev. 2818D-02/03; PackageVersion: rev.A, Nov-2001; PackageReference: 100T1; Publisher: Altium Limited; PackageDescription: 100-Pin Thin Quad Flat Pack 0.5 mm Pitch; Supplier 1: Digi-Key; Supplier Part Number 1: AT40K20AL-1AQC-ND; Supplier 2: Mouser; Supplier Part Number 2: 556-AT40K20AL-1AQC; Code_JEDEC: MS-026-AED; ComponentLink1Description: Manufacturer Link; ComponentLink1URL: http://www.atmel.com/products/FPGA/; ComponentLink2Description: Datasheet; ComponentLink2URL: http://www.atmel.com/dyn/resources/prod_documents/DOC0896.PDF; ComponentLink3Description: Atmel.com Home; ComponentLink3URL: http://www.atmel.com
footprint 100T1_N (Thin QFP, 100-Leads, Body 14x14mm, Pitch 0.5mm, IPC Medium Density)
footprint 100T1_L (Thin QFP, 100-Leads, Body 14x14mm, Pitch 0.5mm, IPC High Density)
footprint 100T1_M (Thin QFP, 100-Leads, Body 14x14mm, Pitch 0.5mm, IPC Low Density)
pins: 1 GND (power), 2 I/O1,GCK1(A16) (io), 3 I/O2(A17) (io), 4 I/O5(A18) (io), 5 I/O6(A19) (io), 6 I/O19(A20) (io), 7 I/O20(A21) (io), 8 I/O30 (io), 9 I/O31(A22) (io), 10 I/O32(A23) (io), 11 GND (power), 12 VCC (power), 13 I/O33 (io), 14 I/O34 (io), 15 I/O35 (io), 16 I/O45 (io), 17 I/O46 (io), 18 I/O59 (io), 19 I/O60 (io), 20 I/O63(~{OTS}) (io), 21 I/O64,GCK2 (io), 22 M1 (in), 23 GND (power), 24 M0 (in), 25 VCC (power), 26 M2 (in), 27 I/O65,GCK3 (io), 28 I/O66(HDC) (io), 29 I/O69 (io), 30 I/O70(LDC) (io), 31 I/O83 (io), 32 I/O84 (io), 33 I/O93 (io), 34 I/O94 (io), 35 I/O95(D15) (io), 36 I/O96(INIT) (io), 37 VCC (power), 38 GND (power), 39 I/O97(D14) (io), 40 I/O98(D13) (io), 41 I/O99 (io), 42 I/O100 (io), 43 I/O109(D12) (io), 44 I/O110(D11) (io), 45 I/O123(D10) (io), 46 I/O124(D9) (io), 47 I/O127(D8) (io), 48 I/O128,GCK4 (io), 49 GND (power), 50 ~{CON} (oc), 51 VCC (power), 52 ~{RESET} (in), 53 I/O129(D7) (io), 54 I/O130,GCK5 (io), 55 I/O137(D6) (io), 56 I/O138 (io), 57 I/O149(D5) (io), 58 I/O150(CS0) (io), 59 I/O157 (io), 60 I/O158 (io), 61 I/O159(D4) (io), 62 I/O160 (io), 63 VCC (power), 64 GND (power), 65 I/O161(D3) (io), 66 I/O162(~{CHECK}) (io), 67 I/O163 (io), 68 I/O171(D2) (io), 69 I/O172 (io), 70 I/O185(D1) (io), 71 I/O186 (io), 72 I/O191(D0) (io), 73 I/O192,GCK6(~{CSOUT}) (io), 74 CCLK (io), 75 VCC (power), 76 I/O201/TSTCLK (io), 77 GND (power), 78 I/O193(A0) (io), 79 I/O194,GCK7(A1) (io), 80 I/O197(~{CS}1,A2) (io), 81 I/O198(A3) (io), 82 I/O217(A4) (io), 83 I/O218(A5) (io), 84 I/O221 (io), 85 I/O222 (io), 86 I/O223(A6) (io), 87 I/O224(A7) (io), 88 GND (power), 89 VCC (power), 90 I/O225(A8) (io), 91 I/O226(A9) (io), 92 I/O227 (io), 93 I/O228 (io), 94 I/O231(A10) (io), 95 I/O232(A11) (io), 96 I/O247(A12) (io), 97 I/O248(A13) (io), 98 I/O255(A14) (io), 99 I/O256,GCK8(A15) (io), 100 VCC (power)

## AT40K20AL-1AQI
designator U?
AT40K20AL 3.3V FPGA, 78 User I/Os, 100-Lead TQFP, Speed Grade 1, Industrial Grade; Published: 17-Dec-2003; LatestRevisionDate: 13-Apr-2006; LatestRevisionNote: IPC-7351 Footprint Added.; DatasheetVersion: Rev. 2818D-02/03; PackageVersion: rev.A, Nov-2001; PackageReference: 100T1; Publisher: Altium Limited; PackageDescription: 100-Pin Thin Quad Flat Pack 0.5 mm Pitch; Code_JEDEC: MS-026-AED; ComponentLink1Description: Manufacturer Link; ComponentLink1URL: http://www.atmel.com/products/FPGA/; ComponentLink2Description: Datasheet; ComponentLink2URL: http://www.atmel.com/dyn/resources/prod_documents/DOC0896.PDF; ComponentLink3Description: Atmel.com Home; ComponentLink3URL: http://www.atmel.com
footprint 100T1_N (Thin QFP, 100-Leads, Body 14x14mm, Pitch 0.5mm, IPC Medium Density)
footprint 100T1_L (Thin QFP, 100-Leads, Body 14x14mm, Pitch 0.5mm, IPC High Density)
footprint 100T1_M (Thin QFP, 100-Leads, Body 14x14mm, Pitch 0.5mm, IPC Low Density)
pins: 1 GND (power), 2 I/O1,GCK1(A16) (io), 3 I/O2(A17) (io), 4 I/O5(A18) (io), 5 I/O6(A19) (io), 6 I/O19(A20) (io), 7 I/O20(A21) (io), 8 I/O30 (io), 9 I/O31(A22) (io), 10 I/O32(A23) (io), 11 GND (power), 12 VCC (power), 13 I/O33 (io), 14 I/O34 (io), 15 I/O35 (io), 16 I/O45 (io), 17 I/O46 (io), 18 I/O59 (io), 19 I/O60 (io), 20 I/O63(~{OTS}) (io), 21 I/O64,GCK2 (io), 22 M1 (in), 23 GND (power), 24 M0 (in), 25 VCC (power), 26 M2 (in), 27 I/O65,GCK3 (io), 28 I/O66(HDC) (io), 29 I/O69 (io), 30 I/O70(LDC) (io), 31 I/O83 (io), 32 I/O84 (io), 33 I/O93 (io), 34 I/O94 (io), 35 I/O95(D15) (io), 36 I/O96(INIT) (io), 37 VCC (power), 38 GND (power), 39 I/O97(D14) (io), 40 I/O98(D13) (io), 41 I/O99 (io), 42 I/O100 (io), 43 I/O109(D12) (io), 44 I/O110(D11) (io), 45 I/O123(D10) (io), 46 I/O124(D9) (io), 47 I/O127(D8) (io), 48 I/O128,GCK4 (io), 49 GND (power), 50 ~{CON} (oc), 51 VCC (power), 52 ~{RESET} (in), 53 I/O129(D7) (io), 54 I/O130,GCK5 (io), 55 I/O137(D6) (io), 56 I/O138 (io), 57 I/O149(D5) (io), 58 I/O150(CS0) (io), 59 I/O157 (io), 60 I/O158 (io), 61 I/O159(D4) (io), 62 I/O160 (io), 63 VCC (power), 64 GND (power), 65 I/O161(D3) (io), 66 I/O162(~{CHECK}) (io), 67 I/O163 (io), 68 I/O171(D2) (io), 69 I/O172 (io), 70 I/O185(D1) (io), 71 I/O186 (io), 72 I/O191(D0) (io), 73 I/O192,GCK6(~{CSOUT}) (io), 74 CCLK (io), 75 VCC (power), 76 I/O201/TSTCLK (io), 77 GND (power), 78 I/O193(A0) (io), 79 I/O194,GCK7(A1) (io), 80 I/O197(~{CS}1,A2) (io), 81 I/O198(A3) (io), 82 I/O217(A4) (io), 83 I/O218(A5) (io), 84 I/O221 (io), 85 I/O222 (io), 86 I/O223(A6) (io), 87 I/O224(A7) (io), 88 GND (power), 89 VCC (power), 90 I/O225(A8) (io), 91 I/O226(A9) (io), 92 I/O227 (io), 93 I/O228 (io), 94 I/O231(A10) (io), 95 I/O232(A11) (io), 96 I/O247(A12) (io), 97 I/O248(A13) (io), 98 I/O255(A14) (io), 99 I/O256,GCK8(A15) (io), 100 VCC (power)

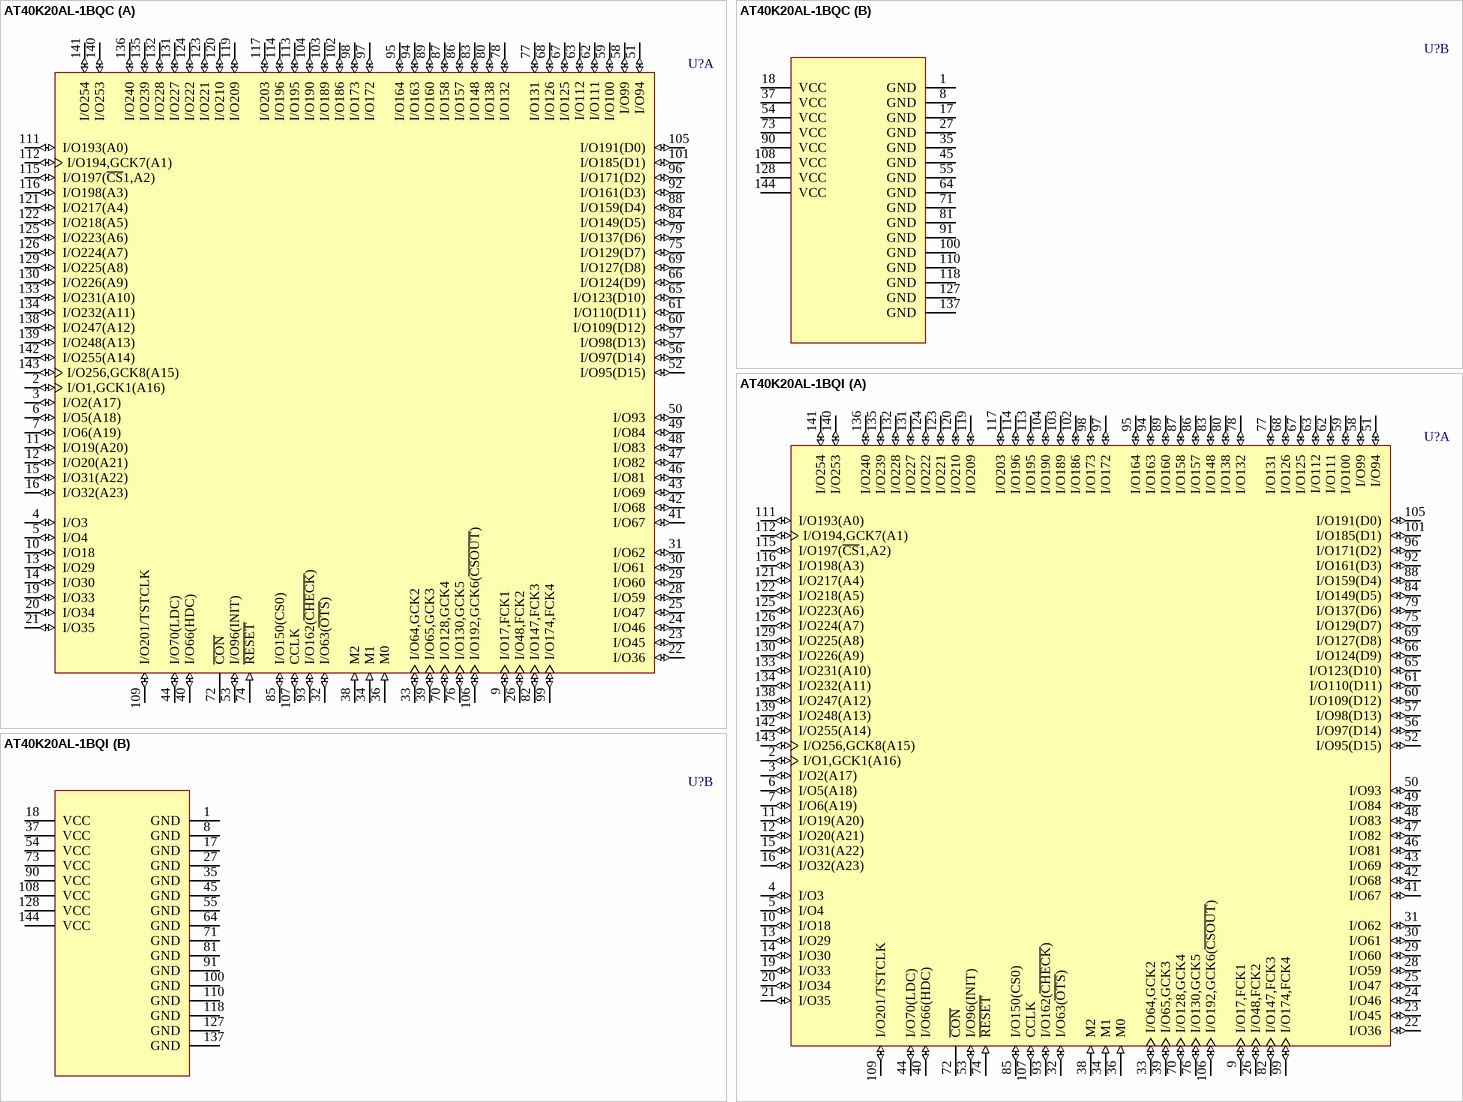
[diagram p40: symbols AT40K20AL-1BQC to AT40K20AL-1BQI]